# Altium integrated library Atmel Microcontroller AVR UC3.IntLib: 227 symbols (part 9 of 32)
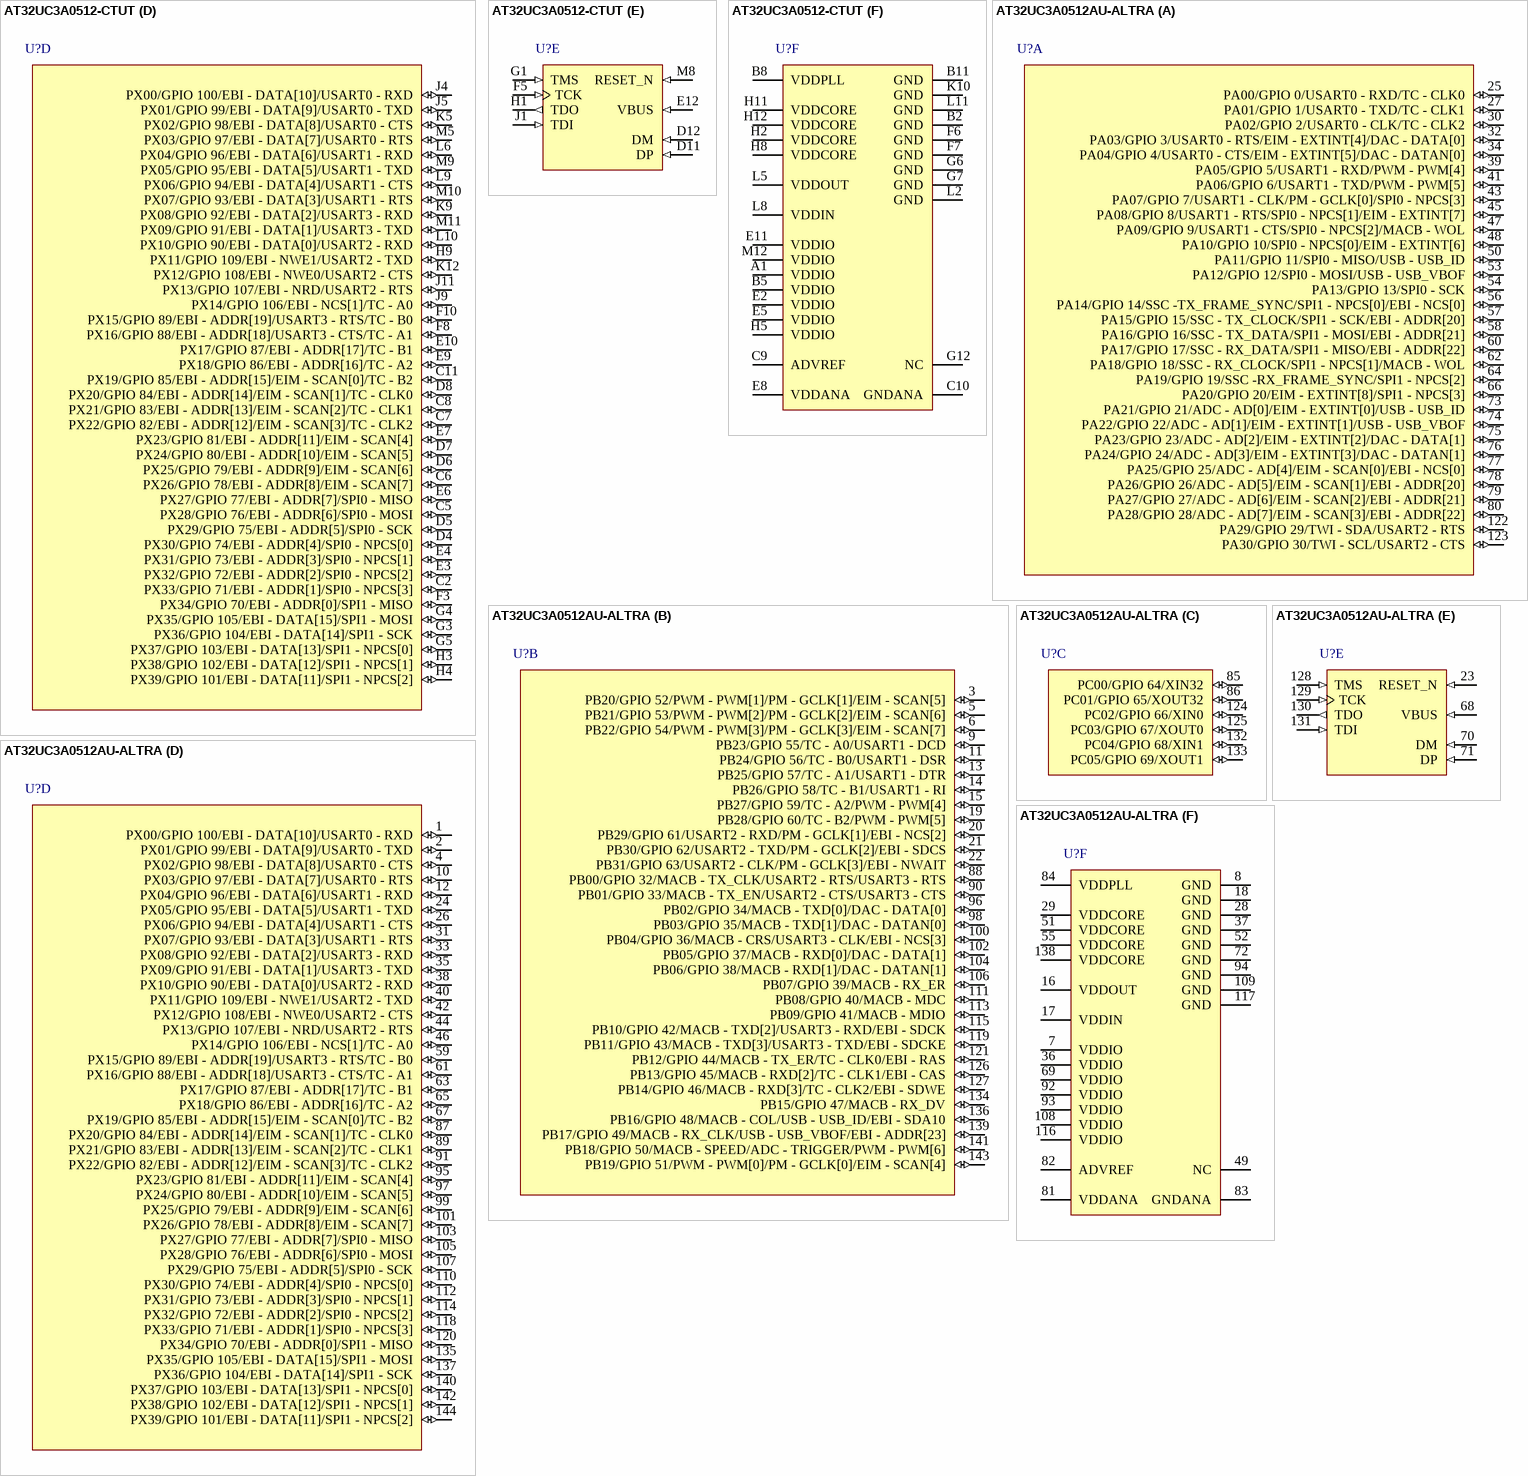
[diagram p146: symbols AT32UC3A0512-CTUT to AT32UC3A0512AU-ALTRA]

## AT32UC3A0512AU-ALTRA
designator U?
32-bit AVR UC3 Microcontroller, 512KB Flash, 64KB SRAM, 109 GPIO pins, Ext. Bus Interface, Audio, 144-Pin LQFP, Automotive Grade, Reel; DatasheetVersion: revK, Jan-2012; PackageVersion: 2011; PackageReference: LQFP144; PackageDescription: 144-Pin Low Profile Plastic Quad Flat Pack, 20 x 20 x 1.4 mm Body, 0.5 mm Pitch; Code_JEDEC: MS-026-BFB; ComponentLink1Description: Manufacturer URL; ComponentLink1URL: http://www.atmel.com/; ComponentLink2Description: AT32UC3A Datasheet; ComponentLink2URL: http://www.atmel.com/dyn/resources/prod_documents/doc32058.pdf; ComponentLink3Description: AT32UC3A Summary; ComponentLink3URL: http://www.atmel.com/dyn/resources/prod_documents/32058S.pdf
footprint LQFP144_N (Thin QFP, 144-Leads, Body 20x20mm, Pitch 0.5mm, IPC Medium Density)
footprint LQFP144_L (Thin QFP, 144-Leads, Body 20x20mm, Pitch 0.5mm, IPC High Density)
footprint LQFP144_M (Thin QFP, 144-Leads, Body 20x20mm, Pitch 0.5mm, IPC Low Density)
part A pins: 25 PA00/GPIO 0/USART0 - RXD/TC - CLK0 (io), 27 PA01/GPIO 1/USART0 - TXD/TC - CLK1 (io), 30 PA02/GPIO 2/USART0 - CLK/TC - CLK2 (io), 32 PA03/GPIO 3/USART0 - RTS/EIM - EXTINT[4]/DAC - DATA[0] (io), 34 PA04/GPIO 4/USART0 - CTS/EIM - EXTINT[5]/DAC - DATAN[0] (io), 39 PA05/GPIO 5/USART1 - RXD/PWM - PWM[4] (io), 41 PA06/GPIO 6/USART1 - TXD/PWM - PWM[5] (io), 43 PA07/GPIO 7/USART1 - CLK/PM - GCLK[0]/SPI0 - NPCS[3] (io), 45 PA08/GPIO 8/USART1 - RTS/SPI0 - NPCS[1]/EIM - EXTINT[7] (io), 47 PA09/GPIO 9/USART1 - CTS/SPI0 - NPCS[2]/MACB - WOL (io), 48 PA10/GPIO 10/SPI0 - NPCS[0]/EIM - EXTINT[6] (io), 50 PA11/GPIO 11/SPI0 - MISO/USB - USB_ID (io), 53 PA12/GPIO 12/SPI0 - MOSI/USB - USB_VBOF (io), 54 PA13/GPIO 13/SPI0 - SCK (io), 56 PA14/GPIO 14/SSC -TX_FRAME_SYNC/SPI1 - NPCS[0]/EBI - NCS[0] (io), 57 PA15/GPIO 15/SSC - TX_CLOCK/SPI1 - SCK/EBI - ADDR[20] (io), 58 PA16/GPIO 16/SSC - TX_DATA/SPI1 - MOSI/EBI - ADDR[21] (io), 60 PA17/GPIO 17/SSC - RX_DATA/SPI1 - MISO/EBI - ADDR[22] (io), 62 PA18/GPIO 18/SSC - RX_CLOCK/SPI1 - NPCS[1]/MACB - WOL (io), 64 PA19/GPIO 19/SSC -RX_FRAME_SYNC/SPI1 - NPCS[2] (io), 66 PA20/GPIO 20/EIM - EXTINT[8]/SPI1 - NPCS[3] (io), 73 PA21/GPIO 21/ADC - AD[0]/EIM - EXTINT[0]/USB - USB_ID (io), 74 PA22/GPIO 22/ADC - AD[1]/EIM - EXTINT[1]/USB - USB_VBOF (io), 75 PA23/GPIO 23/ADC - AD[2]/EIM - EXTINT[2]/DAC - DATA[1] (io), 76 PA24/GPIO 24/ADC - AD[3]/EIM - EXTINT[3]/DAC - DATAN[1] (io), 77 PA25/GPIO 25/ADC - AD[4]/EIM - SCAN[0]/EBI - NCS[0] (io), 78 PA26/GPIO 26/ADC - AD[5]/EIM - SCAN[1]/EBI - ADDR[20] (io), 79 PA27/GPIO 27/ADC - AD[6]/EIM - SCAN[2]/EBI - ADDR[21] (io), 80 PA28/GPIO 28/ADC - AD[7]/EIM - SCAN[3]/EBI - ADDR[22] (io), 122 PA29/GPIO 29/TWI - SDA/USART2 - RTS (io), 123 PA30/GPIO 30/TWI - SCL/USART2 - CTS (io)
part B pins: 3 PB20/GPIO 52/PWM - PWM[1]/PM - GCLK[1]/EIM - SCAN[5] (io), 5 PB21/GPIO 53/PWM - PWM[2]/PM - GCLK[2]/EIM - SCAN[6] (io), 6 PB22/GPIO 54/PWM - PWM[3]/PM - GCLK[3]/EIM - SCAN[7] (io), 9 PB23/GPIO 55/TC - A0/USART1 - DCD (io), 11 PB24/GPIO 56/TC - B0/USART1 - DSR (io), 13 PB25/GPIO 57/TC - A1/USART1 - DTR (io), 14 PB26/GPIO 58/TC - B1/USART1 - RI (io), 15 PB27/GPIO 59/TC - A2/PWM - PWM[4] (io), 19 PB28/GPIO 60/TC - B2/PWM - PWM[5] (io), 20 PB29/GPIO 61/USART2 - RXD/PM - GCLK[1]/EBI - NCS[2] (io), 21 PB30/GPIO 62/USART2 - TXD/PM - GCLK[2]/EBI - SDCS (io), 22 PB31/GPIO 63/USART2 - CLK/PM - GCLK[3]/EBI - NWAIT (io), 88 PB00/GPIO 32/MACB - TX_CLK/USART2 - RTS/USART3 - RTS (io), 90 PB01/GPIO 33/MACB - TX_EN/USART2 - CTS/USART3 - CTS (io), 96 PB02/GPIO 34/MACB - TXD[0]/DAC - DATA[0] (io), 98 PB03/GPIO 35/MACB - TXD[1]/DAC - DATAN[0] (io), 100 PB04/GPIO 36/MACB - CRS/USART3 - CLK/EBI - NCS[3] (io), 102 PB05/GPIO 37/MACB - RXD[0]/DAC - DATA[1] (io), 104 PB06/GPIO 38/MACB - RXD[1]/DAC - DATAN[1] (io), 106 PB07/GPIO 39/MACB - RX_ER (io), 111 PB08/GPIO 40/MACB - MDC (io), 113 PB09/GPIO 41/MACB - MDIO (io), 115 PB10/GPIO 42/MACB - TXD[2]/USART3 - RXD/EBI - SDCK (io), 119 PB11/GPIO 43/MACB - TXD[3]/USART3 - TXD/EBI - SDCKE (io), 121 PB12/GPIO 44/MACB - TX_ER/TC - CLK0/EBI - RAS (io), 126 PB13/GPIO 45/MACB - RXD[2]/TC - CLK1/EBI - CAS (io), 127 PB14/GPIO 46/MACB - RXD[3]/TC - CLK2/EBI - SDWE (io), 134 PB15/GPIO 47/MACB - RX_DV (io), 136 PB16/GPIO 48/MACB - COL/USB - USB_ID/EBI - SDA10 (io), 139 PB17/GPIO 49/MACB - RX_CLK/USB - USB_VBOF/EBI - ADDR[23] (io), 141 PB18/GPIO 50/MACB - SPEED/ADC - TRIGGER/PWM - PWM[6] (io), 143 PB19/GPIO 51/PWM - PWM[0]/PM - GCLK[0]/EIM - SCAN[4] (io)
part C pins: 85 PC00/GPIO 64/XIN32 (io), 86 PC01/GPIO 65/XOUT32 (io), 124 PC02/GPIO 66/XIN0 (io), 125 PC03/GPIO 67/XOUT0 (io), 132 PC04/GPIO 68/XIN1 (io), 133 PC05/GPIO 69/XOUT1 (io)
part D pins: 1 PX00/GPIO 100/EBI - DATA[10]/USART0 - RXD (io), 2 PX01/GPIO 99/EBI - DATA[9]/USART0 - TXD (io), 4 PX02/GPIO 98/EBI - DATA[8]/USART0 - CTS (io), 10 PX03/GPIO 97/EBI - DATA[7]/USART0 - RTS (io), 12 PX04/GPIO 96/EBI - DATA[6]/USART1 - RXD (io), 24 PX05/GPIO 95/EBI - DATA[5]/USART1 - TXD (io), 26 PX06/GPIO 94/EBI - DATA[4]/USART1 - CTS (io), 31 PX07/GPIO 93/EBI - DATA[3]/USART1 - RTS (io), 33 PX08/GPIO 92/EBI - DATA[2]/USART3 - RXD (io), 35 PX09/GPIO 91/EBI - DATA[1]/USART3 - TXD (io), 38 PX10/GPIO 90/EBI - DATA[0]/USART2 - RXD (io), 40 PX11/GPIO 109/EBI - NWE1/USART2 - TXD (io), 42 PX12/GPIO 108/EBI - NWE0/USART2 - CTS (io), 44 PX13/GPIO 107/EBI - NRD/USART2 - RTS (io), 46 PX14/GPIO 106/EBI - NCS[1]/TC - A0 (io), 59 PX15/GPIO 89/EBI - ADDR[19]/USART3 - RTS/TC - B0 (io), 61 PX16/GPIO 88/EBI - ADDR[18]/USART3 - CTS/TC - A1 (io), 63 PX17/GPIO 87/EBI - ADDR[17]/TC - B1 (io), 65 PX18/GPIO 86/EBI - ADDR[16]/TC - A2 (io), 67 PX19/GPIO 85/EBI - ADDR[15]/EIM - SCAN[0]/TC - B2 (io), 87 PX20/GPIO 84/EBI - ADDR[14]/EIM - SCAN[1]/TC - CLK0 (io), 89 PX21/GPIO 83/EBI - ADDR[13]/EIM - SCAN[2]/TC - CLK1 (io), 91 PX22/GPIO 82/EBI - ADDR[12]/EIM - SCAN[3]/TC - CLK2 (io), 95 PX23/GPIO 81/EBI - ADDR[11]/EIM - SCAN[4] (io), 97 PX24/GPIO 80/EBI - ADDR[10]/EIM - SCAN[5] (io), 99 PX25/GPIO 79/EBI - ADDR[9]/EIM - SCAN[6] (io), 101 PX26/GPIO 78/EBI - ADDR[8]/EIM - SCAN[7] (io), 103 PX27/GPIO 77/EBI - ADDR[7]/SPI0 - MISO (io), 105 PX28/GPIO 76/EBI - ADDR[6]/SPI0 - MOSI (io), 107 PX29/GPIO 75/EBI - ADDR[5]/SPI0 - SCK (io), 110 PX30/GPIO 74/EBI - ADDR[4]/SPI0 - NPCS[0] (io), 112 PX31/GPIO 73/EBI - ADDR[3]/SPI0 - NPCS[1] (io), 114 PX32/GPIO 72/EBI - ADDR[2]/SPI0 - NPCS[2] (io), 118 PX33/GPIO 71/EBI - ADDR[1]/SPI0 - NPCS[3] (io), 120 PX34/GPIO 70/EBI - ADDR[0]/SPI1 - MISO (io), 135 PX35/GPIO 105/EBI - DATA[15]/SPI1 - MOSI (io), 137 PX36/GPIO 104/EBI - DATA[14]/SPI1 - SCK (io), 140 PX37/GPIO 103/EBI - DATA[13]/SPI1 - NPCS[0] (io), 142 PX38/GPIO 102/EBI - DATA[12]/SPI1 - NPCS[1] (io), 144 PX39/GPIO 101/EBI - DATA[11]/SPI1 - NPCS[2] (io)
part E pins: 23 RESET_N (in), 68 VBUS (in), 70 DM (in), 71 DP (in), 128 TMS (in), 129 TCK (in), 130 TDO (out), 131 TDI (in)
part F pins: 7 VDDIO (power), 8 GND (power), 16 VDDOUT (power), 17 VDDIN (power), 18 GND (power), 28 GND (power), 29 VDDCORE (power), 36 VDDIO (power), 37 GND (power), 49 NC, 51 VDDCORE (power), 52 GND (power), 55 VDDCORE (power), 69 VDDIO (power), 72 GND (power), 81 VDDANA (power), 82 ADVREF (power), 83 GNDANA (power), 84 VDDPLL (power), 92 VDDIO (power), 93 VDDIO (power), 94 GND (power), 108 VDDIO (power), 109 GND (power), 116 VDDIO (power), 117 GND (power), 138 VDDCORE (power)

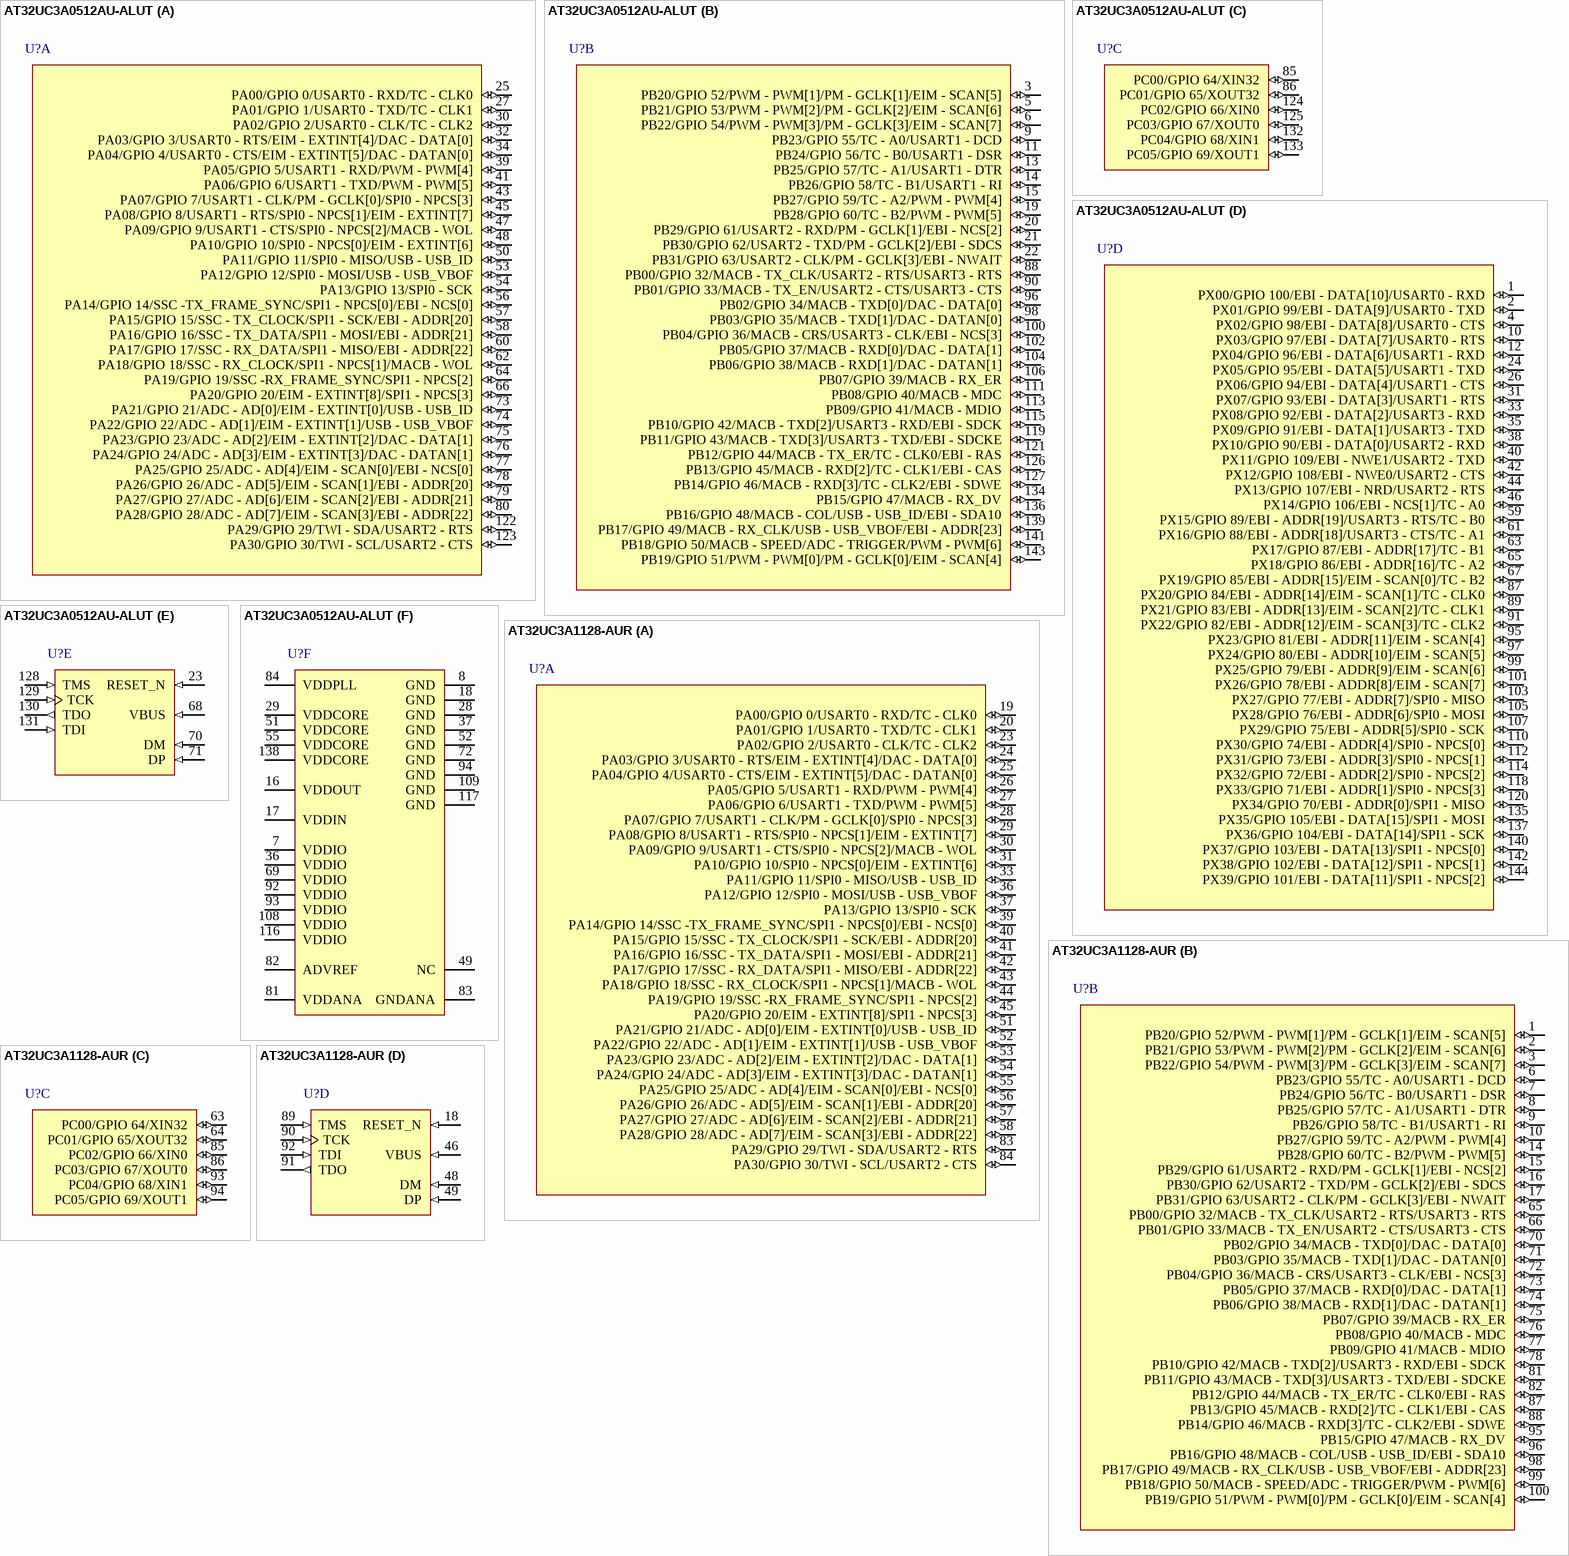
[diagram p27: symbols AT32UC3A0512AU-ALUT to AT32UC3A1128-AUR]

## AT32UC3A0512AU-ALUT
designator U?
32-bit AVR UC3 Microcontroller, 512KB Flash, 64KB SRAM, 109 GPIO pins, Ext. Bus Interface, Audio, 144-Pin LQFP, Industrial Grade, Tray; DatasheetVersion: revK, Jan-2012; PackageVersion: 2011; PackageReference: LQFP144; PackageDescription: 144-Pin Low Profile Plastic Quad Flat Pack, 20 x 20 x 1.4 mm Body, 0.5 mm Pitch; Code_JEDEC: MS-026-BFB; ComponentLink1Description: Manufacturer URL; ComponentLink1URL: http://www.atmel.com/; ComponentLink2Description: AT32UC3A Datasheet; ComponentLink2URL: http://www.atmel.com/dyn/resources/prod_documents/doc32058.pdf; ComponentLink3Description: AT32UC3A Summary; ComponentLink3URL: http://www.atmel.com/dyn/resources/prod_documents/32058S.pdf
footprint LQFP144_N (Thin QFP, 144-Leads, Body 20x20mm, Pitch 0.5mm, IPC Medium Density)
footprint LQFP144_L (Thin QFP, 144-Leads, Body 20x20mm, Pitch 0.5mm, IPC High Density)
footprint LQFP144_M (Thin QFP, 144-Leads, Body 20x20mm, Pitch 0.5mm, IPC Low Density)
part A pins: 25 PA00/GPIO 0/USART0 - RXD/TC - CLK0 (io), 27 PA01/GPIO 1/USART0 - TXD/TC - CLK1 (io), 30 PA02/GPIO 2/USART0 - CLK/TC - CLK2 (io), 32 PA03/GPIO 3/USART0 - RTS/EIM - EXTINT[4]/DAC - DATA[0] (io), 34 PA04/GPIO 4/USART0 - CTS/EIM - EXTINT[5]/DAC - DATAN[0] (io), 39 PA05/GPIO 5/USART1 - RXD/PWM - PWM[4] (io), 41 PA06/GPIO 6/USART1 - TXD/PWM - PWM[5] (io), 43 PA07/GPIO 7/USART1 - CLK/PM - GCLK[0]/SPI0 - NPCS[3] (io), 45 PA08/GPIO 8/USART1 - RTS/SPI0 - NPCS[1]/EIM - EXTINT[7] (io), 47 PA09/GPIO 9/USART1 - CTS/SPI0 - NPCS[2]/MACB - WOL (io), 48 PA10/GPIO 10/SPI0 - NPCS[0]/EIM - EXTINT[6] (io), 50 PA11/GPIO 11/SPI0 - MISO/USB - USB_ID (io), 53 PA12/GPIO 12/SPI0 - MOSI/USB - USB_VBOF (io), 54 PA13/GPIO 13/SPI0 - SCK (io), 56 PA14/GPIO 14/SSC -TX_FRAME_SYNC/SPI1 - NPCS[0]/EBI - NCS[0] (io), 57 PA15/GPIO 15/SSC - TX_CLOCK/SPI1 - SCK/EBI - ADDR[20] (io), 58 PA16/GPIO 16/SSC - TX_DATA/SPI1 - MOSI/EBI - ADDR[21] (io), 60 PA17/GPIO 17/SSC - RX_DATA/SPI1 - MISO/EBI - ADDR[22] (io), 62 PA18/GPIO 18/SSC - RX_CLOCK/SPI1 - NPCS[1]/MACB - WOL (io), 64 PA19/GPIO 19/SSC -RX_FRAME_SYNC/SPI1 - NPCS[2] (io), 66 PA20/GPIO 20/EIM - EXTINT[8]/SPI1 - NPCS[3] (io), 73 PA21/GPIO 21/ADC - AD[0]/EIM - EXTINT[0]/USB - USB_ID (io), 74 PA22/GPIO 22/ADC - AD[1]/EIM - EXTINT[1]/USB - USB_VBOF (io), 75 PA23/GPIO 23/ADC - AD[2]/EIM - EXTINT[2]/DAC - DATA[1] (io), 76 PA24/GPIO 24/ADC - AD[3]/EIM - EXTINT[3]/DAC - DATAN[1] (io), 77 PA25/GPIO 25/ADC - AD[4]/EIM - SCAN[0]/EBI - NCS[0] (io), 78 PA26/GPIO 26/ADC - AD[5]/EIM - SCAN[1]/EBI - ADDR[20] (io), 79 PA27/GPIO 27/ADC - AD[6]/EIM - SCAN[2]/EBI - ADDR[21] (io), 80 PA28/GPIO 28/ADC - AD[7]/EIM - SCAN[3]/EBI - ADDR[22] (io), 122 PA29/GPIO 29/TWI - SDA/USART2 - RTS (io), 123 PA30/GPIO 30/TWI - SCL/USART2 - CTS (io)
part B pins: 3 PB20/GPIO 52/PWM - PWM[1]/PM - GCLK[1]/EIM - SCAN[5] (io), 5 PB21/GPIO 53/PWM - PWM[2]/PM - GCLK[2]/EIM - SCAN[6] (io), 6 PB22/GPIO 54/PWM - PWM[3]/PM - GCLK[3]/EIM - SCAN[7] (io), 9 PB23/GPIO 55/TC - A0/USART1 - DCD (io), 11 PB24/GPIO 56/TC - B0/USART1 - DSR (io), 13 PB25/GPIO 57/TC - A1/USART1 - DTR (io), 14 PB26/GPIO 58/TC - B1/USART1 - RI (io), 15 PB27/GPIO 59/TC - A2/PWM - PWM[4] (io), 19 PB28/GPIO 60/TC - B2/PWM - PWM[5] (io), 20 PB29/GPIO 61/USART2 - RXD/PM - GCLK[1]/EBI - NCS[2] (io), 21 PB30/GPIO 62/USART2 - TXD/PM - GCLK[2]/EBI - SDCS (io), 22 PB31/GPIO 63/USART2 - CLK/PM - GCLK[3]/EBI - NWAIT (io), 88 PB00/GPIO 32/MACB - TX_CLK/USART2 - RTS/USART3 - RTS (io), 90 PB01/GPIO 33/MACB - TX_EN/USART2 - CTS/USART3 - CTS (io), 96 PB02/GPIO 34/MACB - TXD[0]/DAC - DATA[0] (io), 98 PB03/GPIO 35/MACB - TXD[1]/DAC - DATAN[0] (io), 100 PB04/GPIO 36/MACB - CRS/USART3 - CLK/EBI - NCS[3] (io), 102 PB05/GPIO 37/MACB - RXD[0]/DAC - DATA[1] (io), 104 PB06/GPIO 38/MACB - RXD[1]/DAC - DATAN[1] (io), 106 PB07/GPIO 39/MACB - RX_ER (io), 111 PB08/GPIO 40/MACB - MDC (io), 113 PB09/GPIO 41/MACB - MDIO (io), 115 PB10/GPIO 42/MACB - TXD[2]/USART3 - RXD/EBI - SDCK (io), 119 PB11/GPIO 43/MACB - TXD[3]/USART3 - TXD/EBI - SDCKE (io), 121 PB12/GPIO 44/MACB - TX_ER/TC - CLK0/EBI - RAS (io), 126 PB13/GPIO 45/MACB - RXD[2]/TC - CLK1/EBI - CAS (io), 127 PB14/GPIO 46/MACB - RXD[3]/TC - CLK2/EBI - SDWE (io), 134 PB15/GPIO 47/MACB - RX_DV (io), 136 PB16/GPIO 48/MACB - COL/USB - USB_ID/EBI - SDA10 (io), 139 PB17/GPIO 49/MACB - RX_CLK/USB - USB_VBOF/EBI - ADDR[23] (io), 141 PB18/GPIO 50/MACB - SPEED/ADC - TRIGGER/PWM - PWM[6] (io), 143 PB19/GPIO 51/PWM - PWM[0]/PM - GCLK[0]/EIM - SCAN[4] (io)
part C pins: 85 PC00/GPIO 64/XIN32 (io), 86 PC01/GPIO 65/XOUT32 (io), 124 PC02/GPIO 66/XIN0 (io), 125 PC03/GPIO 67/XOUT0 (io), 132 PC04/GPIO 68/XIN1 (io), 133 PC05/GPIO 69/XOUT1 (io)
part D pins: 1 PX00/GPIO 100/EBI - DATA[10]/USART0 - RXD (io), 2 PX01/GPIO 99/EBI - DATA[9]/USART0 - TXD (io), 4 PX02/GPIO 98/EBI - DATA[8]/USART0 - CTS (io), 10 PX03/GPIO 97/EBI - DATA[7]/USART0 - RTS (io), 12 PX04/GPIO 96/EBI - DATA[6]/USART1 - RXD (io), 24 PX05/GPIO 95/EBI - DATA[5]/USART1 - TXD (io), 26 PX06/GPIO 94/EBI - DATA[4]/USART1 - CTS (io), 31 PX07/GPIO 93/EBI - DATA[3]/USART1 - RTS (io), 33 PX08/GPIO 92/EBI - DATA[2]/USART3 - RXD (io), 35 PX09/GPIO 91/EBI - DATA[1]/USART3 - TXD (io), 38 PX10/GPIO 90/EBI - DATA[0]/USART2 - RXD (io), 40 PX11/GPIO 109/EBI - NWE1/USART2 - TXD (io), 42 PX12/GPIO 108/EBI - NWE0/USART2 - CTS (io), 44 PX13/GPIO 107/EBI - NRD/USART2 - RTS (io), 46 PX14/GPIO 106/EBI - NCS[1]/TC - A0 (io), 59 PX15/GPIO 89/EBI - ADDR[19]/USART3 - RTS/TC - B0 (io), 61 PX16/GPIO 88/EBI - ADDR[18]/USART3 - CTS/TC - A1 (io), 63 PX17/GPIO 87/EBI - ADDR[17]/TC - B1 (io), 65 PX18/GPIO 86/EBI - ADDR[16]/TC - A2 (io), 67 PX19/GPIO 85/EBI - ADDR[15]/EIM - SCAN[0]/TC - B2 (io), 87 PX20/GPIO 84/EBI - ADDR[14]/EIM - SCAN[1]/TC - CLK0 (io), 89 PX21/GPIO 83/EBI - ADDR[13]/EIM - SCAN[2]/TC - CLK1 (io), 91 PX22/GPIO 82/EBI - ADDR[12]/EIM - SCAN[3]/TC - CLK2 (io), 95 PX23/GPIO 81/EBI - ADDR[11]/EIM - SCAN[4] (io), 97 PX24/GPIO 80/EBI - ADDR[10]/EIM - SCAN[5] (io), 99 PX25/GPIO 79/EBI - ADDR[9]/EIM - SCAN[6] (io), 101 PX26/GPIO 78/EBI - ADDR[8]/EIM - SCAN[7] (io), 103 PX27/GPIO 77/EBI - ADDR[7]/SPI0 - MISO (io), 105 PX28/GPIO 76/EBI - ADDR[6]/SPI0 - MOSI (io), 107 PX29/GPIO 75/EBI - ADDR[5]/SPI0 - SCK (io), 110 PX30/GPIO 74/EBI - ADDR[4]/SPI0 - NPCS[0] (io), 112 PX31/GPIO 73/EBI - ADDR[3]/SPI0 - NPCS[1] (io), 114 PX32/GPIO 72/EBI - ADDR[2]/SPI0 - NPCS[2] (io), 118 PX33/GPIO 71/EBI - ADDR[1]/SPI0 - NPCS[3] (io), 120 PX34/GPIO 70/EBI - ADDR[0]/SPI1 - MISO (io), 135 PX35/GPIO 105/EBI - DATA[15]/SPI1 - MOSI (io), 137 PX36/GPIO 104/EBI - DATA[14]/SPI1 - SCK (io), 140 PX37/GPIO 103/EBI - DATA[13]/SPI1 - NPCS[0] (io), 142 PX38/GPIO 102/EBI - DATA[12]/SPI1 - NPCS[1] (io), 144 PX39/GPIO 101/EBI - DATA[11]/SPI1 - NPCS[2] (io)
part E pins: 23 RESET_N (in), 68 VBUS (in), 70 DM (in), 71 DP (in), 128 TMS (in), 129 TCK (in), 130 TDO (out), 131 TDI (in)
part F pins: 7 VDDIO (power), 8 GND (power), 16 VDDOUT (power), 17 VDDIN (power), 18 GND (power), 28 GND (power), 29 VDDCORE (power), 36 VDDIO (power), 37 GND (power), 49 NC, 51 VDDCORE (power), 52 GND (power), 55 VDDCORE (power), 69 VDDIO (power), 72 GND (power), 81 VDDANA (power), 82 ADVREF (power), 83 GNDANA (power), 84 VDDPLL (power), 92 VDDIO (power), 93 VDDIO (power), 94 GND (power), 108 VDDIO (power), 109 GND (power), 116 VDDIO (power), 117 GND (power), 138 VDDCORE (power)

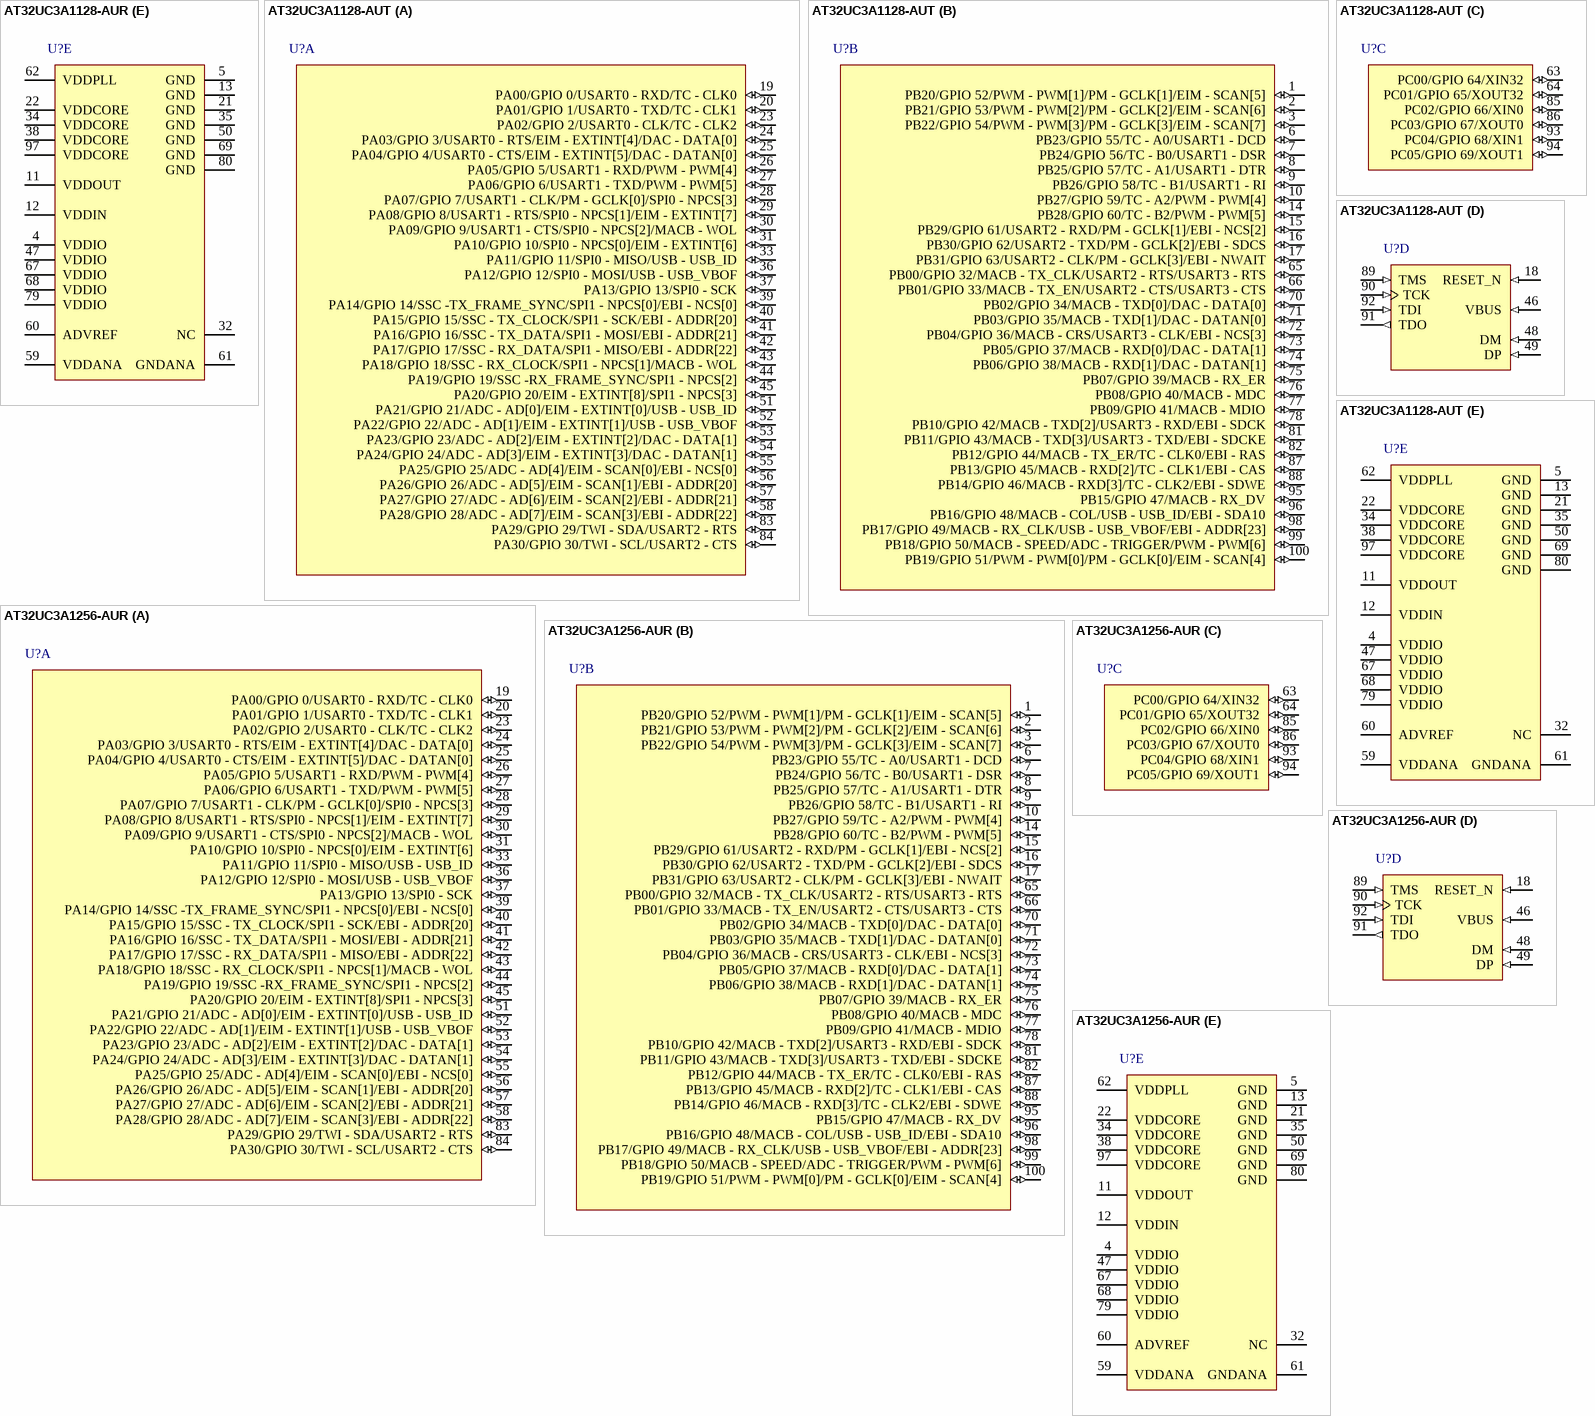
[diagram p28: symbols AT32UC3A1128-AUR to AT32UC3A1256-AUR]

## AT32UC3A1128-AUR
designator U?
32-bit AVR UC3 Microcontroller, 128KB Flash, 32KB SRAM, 69 GPIO pins, 100-Pin TQFP, Industrial Grade, Reel; DatasheetVersion: revK, Jan-2012; PackageVersion: 2011; PackageReference: TQFP100; PackageDescription: 100-Pin Thin Plastic Quad Flat Pack, 14 x 14 x 1 mm Body, 0.5 mm Pitch; Code_JEDEC: MS-026-AED; ComponentLink1Description: Manufacturer URL; ComponentLink1URL: http://www.atmel.com/; ComponentLink2Description: AT32UC3A Datasheet; ComponentLink2URL: http://www.atmel.com/dyn/resources/prod_documents/doc32058.pdf; ComponentLink3Description: AT32UC3A Summary; ComponentLink3URL: http://www.atmel.com/dyn/resources/prod_documents/32058S.pdf
footprint TQFP100_N (Thin QFP, 100-Leads, Body 14x14mm, Pitch 0.5mm, IPC Medium Density)
footprint TQFP100_L (Thin QFP, 100-Leads, Body 14x14mm, Pitch 0.5mm, IPC High Density)
footprint TQFP100_M (Thin QFP, 100-Leads, Body 14x14mm, Pitch 0.5mm, IPC Low Density)
part A pins: 19 PA00/GPIO 0/USART0 - RXD/TC - CLK0 (io), 20 PA01/GPIO 1/USART0 - TXD/TC - CLK1 (io), 23 PA02/GPIO 2/USART0 - CLK/TC - CLK2 (io), 24 PA03/GPIO 3/USART0 - RTS/EIM - EXTINT[4]/DAC - DATA[0] (io), 25 PA04/GPIO 4/USART0 - CTS/EIM - EXTINT[5]/DAC - DATAN[0] (io), 26 PA05/GPIO 5/USART1 - RXD/PWM - PWM[4] (io), 27 PA06/GPIO 6/USART1 - TXD/PWM - PWM[5] (io), 28 PA07/GPIO 7/USART1 - CLK/PM - GCLK[0]/SPI0 - NPCS[3] (io), 29 PA08/GPIO 8/USART1 - RTS/SPI0 - NPCS[1]/EIM - EXTINT[7] (io), 30 PA09/GPIO 9/USART1 - CTS/SPI0 - NPCS[2]/MACB - WOL (io), 31 PA10/GPIO 10/SPI0 - NPCS[0]/EIM - EXTINT[6] (io), 33 PA11/GPIO 11/SPI0 - MISO/USB - USB_ID (io), 36 PA12/GPIO 12/SPI0 - MOSI/USB - USB_VBOF (io), 37 PA13/GPIO 13/SPI0 - SCK (io), 39 PA14/GPIO 14/SSC -TX_FRAME_SYNC/SPI1 - NPCS[0]/EBI - NCS[0] (io), 40 PA15/GPIO 15/SSC - TX_CLOCK/SPI1 - SCK/EBI - ADDR[20] (io), 41 PA16/GPIO 16/SSC - TX_DATA/SPI1 - MOSI/EBI - ADDR[21] (io), 42 PA17/GPIO 17/SSC - RX_DATA/SPI1 - MISO/EBI - ADDR[22] (io), 43 PA18/GPIO 18/SSC - RX_CLOCK/SPI1 - NPCS[1]/MACB - WOL (io), 44 PA19/GPIO 19/SSC -RX_FRAME_SYNC/SPI1 - NPCS[2] (io), 45 PA20/GPIO 20/EIM - EXTINT[8]/SPI1 - NPCS[3] (io), 51 PA21/GPIO 21/ADC - AD[0]/EIM - EXTINT[0]/USB - USB_ID (io), 52 PA22/GPIO 22/ADC - AD[1]/EIM - EXTINT[1]/USB - USB_VBOF (io), 53 PA23/GPIO 23/ADC - AD[2]/EIM - EXTINT[2]/DAC - DATA[1] (io), 54 PA24/GPIO 24/ADC - AD[3]/EIM - EXTINT[3]/DAC - DATAN[1] (io), 55 PA25/GPIO 25/ADC - AD[4]/EIM - SCAN[0]/EBI - NCS[0] (io), 56 PA26/GPIO 26/ADC - AD[5]/EIM - SCAN[1]/EBI - ADDR[20] (io), 57 PA27/GPIO 27/ADC - AD[6]/EIM - SCAN[2]/EBI - ADDR[21] (io), 58 PA28/GPIO 28/ADC - AD[7]/EIM - SCAN[3]/EBI - ADDR[22] (io), 83 PA29/GPIO 29/TWI - SDA/USART2 - RTS (io), 84 PA30/GPIO 30/TWI - SCL/USART2 - CTS (io)
part B pins: 1 PB20/GPIO 52/PWM - PWM[1]/PM - GCLK[1]/EIM - SCAN[5] (io), 2 PB21/GPIO 53/PWM - PWM[2]/PM - GCLK[2]/EIM - SCAN[6] (io), 3 PB22/GPIO 54/PWM - PWM[3]/PM - GCLK[3]/EIM - SCAN[7] (io), 6 PB23/GPIO 55/TC - A0/USART1 - DCD (io), 7 PB24/GPIO 56/TC - B0/USART1 - DSR (io), 8 PB25/GPIO 57/TC - A1/USART1 - DTR (io), 9 PB26/GPIO 58/TC - B1/USART1 - RI (io), 10 PB27/GPIO 59/TC - A2/PWM - PWM[4] (io), 14 PB28/GPIO 60/TC - B2/PWM - PWM[5] (io), 15 PB29/GPIO 61/USART2 - RXD/PM - GCLK[1]/EBI - NCS[2] (io), 16 PB30/GPIO 62/USART2 - TXD/PM - GCLK[2]/EBI - SDCS (io), 17 PB31/GPIO 63/USART2 - CLK/PM - GCLK[3]/EBI - NWAIT (io), 65 PB00/GPIO 32/MACB - TX_CLK/USART2 - RTS/USART3 - RTS (io), 66 PB01/GPIO 33/MACB - TX_EN/USART2 - CTS/USART3 - CTS (io), 70 PB02/GPIO 34/MACB - TXD[0]/DAC - DATA[0] (io), 71 PB03/GPIO 35/MACB - TXD[1]/DAC - DATAN[0] (io), 72 PB04/GPIO 36/MACB - CRS/USART3 - CLK/EBI - NCS[3] (io), 73 PB05/GPIO 37/MACB - RXD[0]/DAC - DATA[1] (io), 74 PB06/GPIO 38/MACB - RXD[1]/DAC - DATAN[1] (io), 75 PB07/GPIO 39/MACB - RX_ER (io), 76 PB08/GPIO 40/MACB - MDC (io), 77 PB09/GPIO 41/MACB - MDIO (io), 78 PB10/GPIO 42/MACB - TXD[2]/USART3 - RXD/EBI - SDCK (io), 81 PB11/GPIO 43/MACB - TXD[3]/USART3 - TXD/EBI - SDCKE (io), 82 PB12/GPIO 44/MACB - TX_ER/TC - CLK0/EBI - RAS (io), 87 PB13/GPIO 45/MACB - RXD[2]/TC - CLK1/EBI - CAS (io), 88 PB14/GPIO 46/MACB - RXD[3]/TC - CLK2/EBI - SDWE (io), 95 PB15/GPIO 47/MACB - RX_DV (io), 96 PB16/GPIO 48/MACB - COL/USB - USB_ID/EBI - SDA10 (io), 98 PB17/GPIO 49/MACB - RX_CLK/USB - USB_VBOF/EBI - ADDR[23] (io), 99 PB18/GPIO 50/MACB - SPEED/ADC - TRIGGER/PWM - PWM[6] (io), 100 PB19/GPIO 51/PWM - PWM[0]/PM - GCLK[0]/EIM - SCAN[4] (io)
part C pins: 63 PC00/GPIO 64/XIN32 (io), 64 PC01/GPIO 65/XOUT32 (io), 85 PC02/GPIO 66/XIN0 (io), 86 PC03/GPIO 67/XOUT0 (io), 93 PC04/GPIO 68/XIN1 (io), 94 PC05/GPIO 69/XOUT1 (io)
part D pins: 18 RESET_N (in), 46 VBUS (in), 48 DM (in), 49 DP (in), 89 TMS (in), 90 TCK (in), 91 TDO (out), 92 TDI (in)
part E pins: 4 VDDIO (power), 5 GND (power), 11 VDDOUT (power), 12 VDDIN (power), 13 GND (power), 21 GND (power), 22 VDDCORE (power), 32 NC, 34 VDDCORE (power), 35 GND (power), 38 VDDCORE (power), 47 VDDIO (power), 50 GND (power), 59 VDDANA (power), 60 ADVREF (power), 61 GNDANA (power), 62 VDDPLL (power), 67 VDDIO (power), 68 VDDIO (power), 69 GND (power), 79 VDDIO (power), 80 GND (power), 97 VDDCORE (power)

## AT32UC3A1128-AUT
designator U?
32-bit AVR UC3 Microcontroller, 128KB Flash, 32KB SRAM, 69 GPIO pins, 100-Pin TQFP, Industrial Grade, Tray; DatasheetVersion: revK, Jan-2012; PackageVersion: 2011; PackageReference: TQFP100; PackageDescription: 100-Pin Thin Plastic Quad Flat Pack, 14 x 14 x 1 mm Body, 0.5 mm Pitch; Code_JEDEC: MS-026-AED; ComponentLink1Description: Manufacturer URL; ComponentLink1URL: http://www.atmel.com/; ComponentLink2Description: AT32UC3A Datasheet; ComponentLink2URL: http://www.atmel.com/dyn/resources/prod_documents/doc32058.pdf; ComponentLink3Description: AT32UC3A Summary; ComponentLink3URL: http://www.atmel.com/dyn/resources/prod_documents/32058S.pdf
footprint TQFP100_N (Thin QFP, 100-Leads, Body 14x14mm, Pitch 0.5mm, IPC Medium Density)
footprint TQFP100_L (Thin QFP, 100-Leads, Body 14x14mm, Pitch 0.5mm, IPC High Density)
footprint TQFP100_M (Thin QFP, 100-Leads, Body 14x14mm, Pitch 0.5mm, IPC Low Density)
part A pins: 19 PA00/GPIO 0/USART0 - RXD/TC - CLK0 (io), 20 PA01/GPIO 1/USART0 - TXD/TC - CLK1 (io), 23 PA02/GPIO 2/USART0 - CLK/TC - CLK2 (io), 24 PA03/GPIO 3/USART0 - RTS/EIM - EXTINT[4]/DAC - DATA[0] (io), 25 PA04/GPIO 4/USART0 - CTS/EIM - EXTINT[5]/DAC - DATAN[0] (io), 26 PA05/GPIO 5/USART1 - RXD/PWM - PWM[4] (io), 27 PA06/GPIO 6/USART1 - TXD/PWM - PWM[5] (io), 28 PA07/GPIO 7/USART1 - CLK/PM - GCLK[0]/SPI0 - NPCS[3] (io), 29 PA08/GPIO 8/USART1 - RTS/SPI0 - NPCS[1]/EIM - EXTINT[7] (io), 30 PA09/GPIO 9/USART1 - CTS/SPI0 - NPCS[2]/MACB - WOL (io), 31 PA10/GPIO 10/SPI0 - NPCS[0]/EIM - EXTINT[6] (io), 33 PA11/GPIO 11/SPI0 - MISO/USB - USB_ID (io), 36 PA12/GPIO 12/SPI0 - MOSI/USB - USB_VBOF (io), 37 PA13/GPIO 13/SPI0 - SCK (io), 39 PA14/GPIO 14/SSC -TX_FRAME_SYNC/SPI1 - NPCS[0]/EBI - NCS[0] (io), 40 PA15/GPIO 15/SSC - TX_CLOCK/SPI1 - SCK/EBI - ADDR[20] (io), 41 PA16/GPIO 16/SSC - TX_DATA/SPI1 - MOSI/EBI - ADDR[21] (io), 42 PA17/GPIO 17/SSC - RX_DATA/SPI1 - MISO/EBI - ADDR[22] (io), 43 PA18/GPIO 18/SSC - RX_CLOCK/SPI1 - NPCS[1]/MACB - WOL (io), 44 PA19/GPIO 19/SSC -RX_FRAME_SYNC/SPI1 - NPCS[2] (io), 45 PA20/GPIO 20/EIM - EXTINT[8]/SPI1 - NPCS[3] (io), 51 PA21/GPIO 21/ADC - AD[0]/EIM - EXTINT[0]/USB - USB_ID (io), 52 PA22/GPIO 22/ADC - AD[1]/EIM - EXTINT[1]/USB - USB_VBOF (io), 53 PA23/GPIO 23/ADC - AD[2]/EIM - EXTINT[2]/DAC - DATA[1] (io), 54 PA24/GPIO 24/ADC - AD[3]/EIM - EXTINT[3]/DAC - DATAN[1] (io), 55 PA25/GPIO 25/ADC - AD[4]/EIM - SCAN[0]/EBI - NCS[0] (io), 56 PA26/GPIO 26/ADC - AD[5]/EIM - SCAN[1]/EBI - ADDR[20] (io), 57 PA27/GPIO 27/ADC - AD[6]/EIM - SCAN[2]/EBI - ADDR[21] (io), 58 PA28/GPIO 28/ADC - AD[7]/EIM - SCAN[3]/EBI - ADDR[22] (io), 83 PA29/GPIO 29/TWI - SDA/USART2 - RTS (io), 84 PA30/GPIO 30/TWI - SCL/USART2 - CTS (io)
part B pins: 1 PB20/GPIO 52/PWM - PWM[1]/PM - GCLK[1]/EIM - SCAN[5] (io), 2 PB21/GPIO 53/PWM - PWM[2]/PM - GCLK[2]/EIM - SCAN[6] (io), 3 PB22/GPIO 54/PWM - PWM[3]/PM - GCLK[3]/EIM - SCAN[7] (io), 6 PB23/GPIO 55/TC - A0/USART1 - DCD (io), 7 PB24/GPIO 56/TC - B0/USART1 - DSR (io), 8 PB25/GPIO 57/TC - A1/USART1 - DTR (io), 9 PB26/GPIO 58/TC - B1/USART1 - RI (io), 10 PB27/GPIO 59/TC - A2/PWM - PWM[4] (io), 14 PB28/GPIO 60/TC - B2/PWM - PWM[5] (io), 15 PB29/GPIO 61/USART2 - RXD/PM - GCLK[1]/EBI - NCS[2] (io), 16 PB30/GPIO 62/USART2 - TXD/PM - GCLK[2]/EBI - SDCS (io), 17 PB31/GPIO 63/USART2 - CLK/PM - GCLK[3]/EBI - NWAIT (io), 65 PB00/GPIO 32/MACB - TX_CLK/USART2 - RTS/USART3 - RTS (io), 66 PB01/GPIO 33/MACB - TX_EN/USART2 - CTS/USART3 - CTS (io), 70 PB02/GPIO 34/MACB - TXD[0]/DAC - DATA[0] (io), 71 PB03/GPIO 35/MACB - TXD[1]/DAC - DATAN[0] (io), 72 PB04/GPIO 36/MACB - CRS/USART3 - CLK/EBI - NCS[3] (io), 73 PB05/GPIO 37/MACB - RXD[0]/DAC - DATA[1] (io), 74 PB06/GPIO 38/MACB - RXD[1]/DAC - DATAN[1] (io), 75 PB07/GPIO 39/MACB - RX_ER (io), 76 PB08/GPIO 40/MACB - MDC (io), 77 PB09/GPIO 41/MACB - MDIO (io), 78 PB10/GPIO 42/MACB - TXD[2]/USART3 - RXD/EBI - SDCK (io), 81 PB11/GPIO 43/MACB - TXD[3]/USART3 - TXD/EBI - SDCKE (io), 82 PB12/GPIO 44/MACB - TX_ER/TC - CLK0/EBI - RAS (io), 87 PB13/GPIO 45/MACB - RXD[2]/TC - CLK1/EBI - CAS (io), 88 PB14/GPIO 46/MACB - RXD[3]/TC - CLK2/EBI - SDWE (io), 95 PB15/GPIO 47/MACB - RX_DV (io), 96 PB16/GPIO 48/MACB - COL/USB - USB_ID/EBI - SDA10 (io), 98 PB17/GPIO 49/MACB - RX_CLK/USB - USB_VBOF/EBI - ADDR[23] (io), 99 PB18/GPIO 50/MACB - SPEED/ADC - TRIGGER/PWM - PWM[6] (io), 100 PB19/GPIO 51/PWM - PWM[0]/PM - GCLK[0]/EIM - SCAN[4] (io)
part C pins: 63 PC00/GPIO 64/XIN32 (io), 64 PC01/GPIO 65/XOUT32 (io), 85 PC02/GPIO 66/XIN0 (io), 86 PC03/GPIO 67/XOUT0 (io), 93 PC04/GPIO 68/XIN1 (io), 94 PC05/GPIO 69/XOUT1 (io)
part D pins: 18 RESET_N (in), 46 VBUS (in), 48 DM (in), 49 DP (in), 89 TMS (in), 90 TCK (in), 91 TDO (out), 92 TDI (in)
part E pins: 4 VDDIO (power), 5 GND (power), 11 VDDOUT (power), 12 VDDIN (power), 13 GND (power), 21 GND (power), 22 VDDCORE (power), 32 NC, 34 VDDCORE (power), 35 GND (power), 38 VDDCORE (power), 47 VDDIO (power), 50 GND (power), 59 VDDANA (power), 60 ADVREF (power), 61 GNDANA (power), 62 VDDPLL (power), 67 VDDIO (power), 68 VDDIO (power), 69 GND (power), 79 VDDIO (power), 80 GND (power), 97 VDDCORE (power)

## AT32UC3A1256-AUR
designator U?
32-bit AVR UC3 Microcontroller, 256KB Flash, 64KB SRAM, 69 GPIO pins, 100-Pin TQFP, Industrial Grade, Reel; DatasheetVersion: revK, Jan-2012; PackageVersion: 2011; PackageReference: TQFP100; PackageDescription: 100-Pin Thin Plastic Quad Flat Pack, 14 x 14 x 1 mm Body, 0.5 mm Pitch; Code_JEDEC: MS-026-AED; ComponentLink1Description: Manufacturer URL; ComponentLink1URL: http://www.atmel.com/; ComponentLink2Description: AT32UC3A Datasheet; ComponentLink2URL: http://www.atmel.com/dyn/resources/prod_documents/doc32058.pdf; ComponentLink3Description: AT32UC3A Summary; ComponentLink3URL: http://www.atmel.com/dyn/resources/prod_documents/32058S.pdf
footprint TQFP100_N (Thin QFP, 100-Leads, Body 14x14mm, Pitch 0.5mm, IPC Medium Density)
footprint TQFP100_L (Thin QFP, 100-Leads, Body 14x14mm, Pitch 0.5mm, IPC High Density)
footprint TQFP100_M (Thin QFP, 100-Leads, Body 14x14mm, Pitch 0.5mm, IPC Low Density)
part A pins: 19 PA00/GPIO 0/USART0 - RXD/TC - CLK0 (io), 20 PA01/GPIO 1/USART0 - TXD/TC - CLK1 (io), 23 PA02/GPIO 2/USART0 - CLK/TC - CLK2 (io), 24 PA03/GPIO 3/USART0 - RTS/EIM - EXTINT[4]/DAC - DATA[0] (io), 25 PA04/GPIO 4/USART0 - CTS/EIM - EXTINT[5]/DAC - DATAN[0] (io), 26 PA05/GPIO 5/USART1 - RXD/PWM - PWM[4] (io), 27 PA06/GPIO 6/USART1 - TXD/PWM - PWM[5] (io), 28 PA07/GPIO 7/USART1 - CLK/PM - GCLK[0]/SPI0 - NPCS[3] (io), 29 PA08/GPIO 8/USART1 - RTS/SPI0 - NPCS[1]/EIM - EXTINT[7] (io), 30 PA09/GPIO 9/USART1 - CTS/SPI0 - NPCS[2]/MACB - WOL (io), 31 PA10/GPIO 10/SPI0 - NPCS[0]/EIM - EXTINT[6] (io), 33 PA11/GPIO 11/SPI0 - MISO/USB - USB_ID (io), 36 PA12/GPIO 12/SPI0 - MOSI/USB - USB_VBOF (io), 37 PA13/GPIO 13/SPI0 - SCK (io), 39 PA14/GPIO 14/SSC -TX_FRAME_SYNC/SPI1 - NPCS[0]/EBI - NCS[0] (io), 40 PA15/GPIO 15/SSC - TX_CLOCK/SPI1 - SCK/EBI - ADDR[20] (io), 41 PA16/GPIO 16/SSC - TX_DATA/SPI1 - MOSI/EBI - ADDR[21] (io), 42 PA17/GPIO 17/SSC - RX_DATA/SPI1 - MISO/EBI - ADDR[22] (io), 43 PA18/GPIO 18/SSC - RX_CLOCK/SPI1 - NPCS[1]/MACB - WOL (io), 44 PA19/GPIO 19/SSC -RX_FRAME_SYNC/SPI1 - NPCS[2] (io), 45 PA20/GPIO 20/EIM - EXTINT[8]/SPI1 - NPCS[3] (io), 51 PA21/GPIO 21/ADC - AD[0]/EIM - EXTINT[0]/USB - USB_ID (io), 52 PA22/GPIO 22/ADC - AD[1]/EIM - EXTINT[1]/USB - USB_VBOF (io), 53 PA23/GPIO 23/ADC - AD[2]/EIM - EXTINT[2]/DAC - DATA[1] (io), 54 PA24/GPIO 24/ADC - AD[3]/EIM - EXTINT[3]/DAC - DATAN[1] (io), 55 PA25/GPIO 25/ADC - AD[4]/EIM - SCAN[0]/EBI - NCS[0] (io), 56 PA26/GPIO 26/ADC - AD[5]/EIM - SCAN[1]/EBI - ADDR[20] (io), 57 PA27/GPIO 27/ADC - AD[6]/EIM - SCAN[2]/EBI - ADDR[21] (io), 58 PA28/GPIO 28/ADC - AD[7]/EIM - SCAN[3]/EBI - ADDR[22] (io), 83 PA29/GPIO 29/TWI - SDA/USART2 - RTS (io), 84 PA30/GPIO 30/TWI - SCL/USART2 - CTS (io)
part B pins: 1 PB20/GPIO 52/PWM - PWM[1]/PM - GCLK[1]/EIM - SCAN[5] (io), 2 PB21/GPIO 53/PWM - PWM[2]/PM - GCLK[2]/EIM - SCAN[6] (io), 3 PB22/GPIO 54/PWM - PWM[3]/PM - GCLK[3]/EIM - SCAN[7] (io), 6 PB23/GPIO 55/TC - A0/USART1 - DCD (io), 7 PB24/GPIO 56/TC - B0/USART1 - DSR (io), 8 PB25/GPIO 57/TC - A1/USART1 - DTR (io), 9 PB26/GPIO 58/TC - B1/USART1 - RI (io), 10 PB27/GPIO 59/TC - A2/PWM - PWM[4] (io), 14 PB28/GPIO 60/TC - B2/PWM - PWM[5] (io), 15 PB29/GPIO 61/USART2 - RXD/PM - GCLK[1]/EBI - NCS[2] (io), 16 PB30/GPIO 62/USART2 - TXD/PM - GCLK[2]/EBI - SDCS (io), 17 PB31/GPIO 63/USART2 - CLK/PM - GCLK[3]/EBI - NWAIT (io), 65 PB00/GPIO 32/MACB - TX_CLK/USART2 - RTS/USART3 - RTS (io), 66 PB01/GPIO 33/MACB - TX_EN/USART2 - CTS/USART3 - CTS (io), 70 PB02/GPIO 34/MACB - TXD[0]/DAC - DATA[0] (io), 71 PB03/GPIO 35/MACB - TXD[1]/DAC - DATAN[0] (io), 72 PB04/GPIO 36/MACB - CRS/USART3 - CLK/EBI - NCS[3] (io), 73 PB05/GPIO 37/MACB - RXD[0]/DAC - DATA[1] (io), 74 PB06/GPIO 38/MACB - RXD[1]/DAC - DATAN[1] (io), 75 PB07/GPIO 39/MACB - RX_ER (io), 76 PB08/GPIO 40/MACB - MDC (io), 77 PB09/GPIO 41/MACB - MDIO (io), 78 PB10/GPIO 42/MACB - TXD[2]/USART3 - RXD/EBI - SDCK (io), 81 PB11/GPIO 43/MACB - TXD[3]/USART3 - TXD/EBI - SDCKE (io), 82 PB12/GPIO 44/MACB - TX_ER/TC - CLK0/EBI - RAS (io), 87 PB13/GPIO 45/MACB - RXD[2]/TC - CLK1/EBI - CAS (io), 88 PB14/GPIO 46/MACB - RXD[3]/TC - CLK2/EBI - SDWE (io), 95 PB15/GPIO 47/MACB - RX_DV (io), 96 PB16/GPIO 48/MACB - COL/USB - USB_ID/EBI - SDA10 (io), 98 PB17/GPIO 49/MACB - RX_CLK/USB - USB_VBOF/EBI - ADDR[23] (io), 99 PB18/GPIO 50/MACB - SPEED/ADC - TRIGGER/PWM - PWM[6] (io), 100 PB19/GPIO 51/PWM - PWM[0]/PM - GCLK[0]/EIM - SCAN[4] (io)
part C pins: 63 PC00/GPIO 64/XIN32 (io), 64 PC01/GPIO 65/XOUT32 (io), 85 PC02/GPIO 66/XIN0 (io), 86 PC03/GPIO 67/XOUT0 (io), 93 PC04/GPIO 68/XIN1 (io), 94 PC05/GPIO 69/XOUT1 (io)
part D pins: 18 RESET_N (in), 46 VBUS (in), 48 DM (in), 49 DP (in), 89 TMS (in), 90 TCK (in), 91 TDO (out), 92 TDI (in)
part E pins: 4 VDDIO (power), 5 GND (power), 11 VDDOUT (power), 12 VDDIN (power), 13 GND (power), 21 GND (power), 22 VDDCORE (power), 32 NC, 34 VDDCORE (power), 35 GND (power), 38 VDDCORE (power), 47 VDDIO (power), 50 GND (power), 59 VDDANA (power), 60 ADVREF (power), 61 GNDANA (power), 62 VDDPLL (power), 67 VDDIO (power), 68 VDDIO (power), 69 GND (power), 79 VDDIO (power), 80 GND (power), 97 VDDCORE (power)

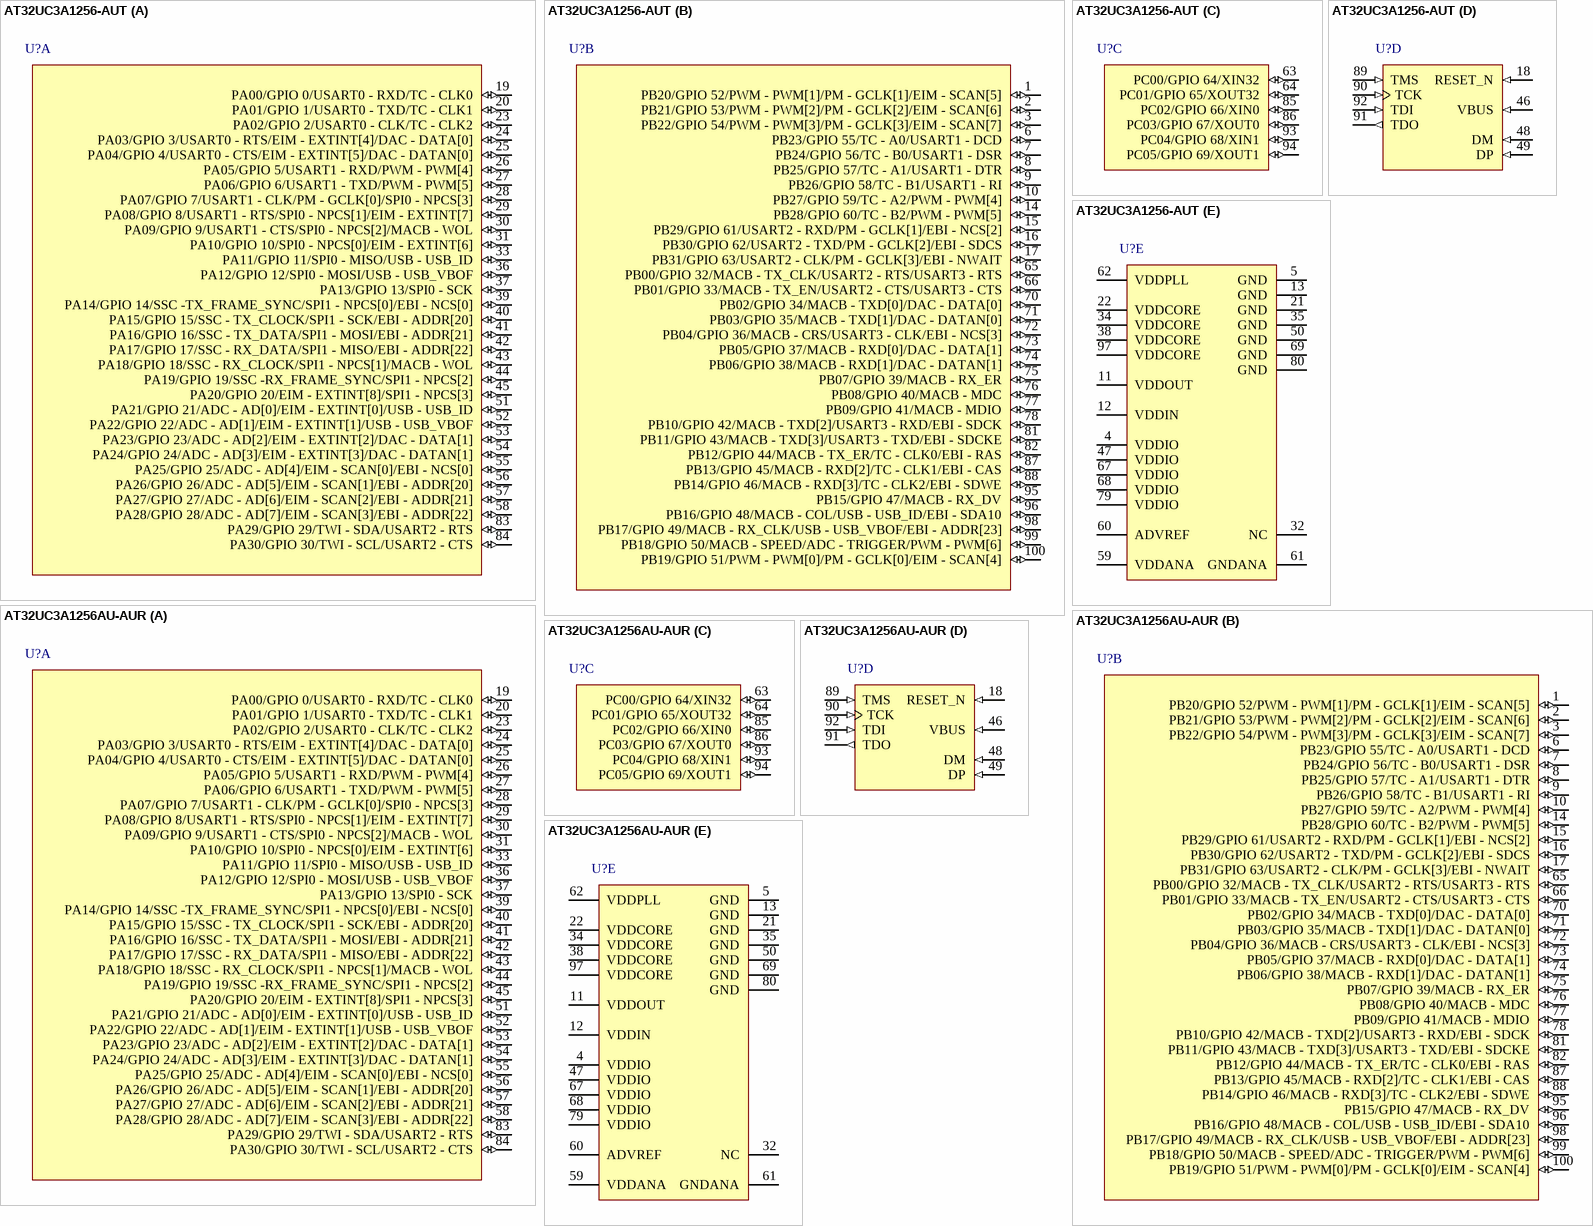
[diagram p29: symbols AT32UC3A1256-AUT to AT32UC3A1256AU-AUR]

## AT32UC3A1256-AUT
designator U?
32-bit AVR UC3 Microcontroller, 256KB Flash, 64KB SRAM, 69 GPIO pins, 100-Pin TQFP, Industrial Grade, Tray; DatasheetVersion: revK, Jan-2012; PackageVersion: 2011; PackageReference: TQFP100; PackageDescription: 100-Pin Thin Plastic Quad Flat Pack, 14 x 14 x 1 mm Body, 0.5 mm Pitch; Code_JEDEC: MS-026-AED; ComponentLink1Description: Manufacturer URL; ComponentLink1URL: http://www.atmel.com/; ComponentLink2Description: AT32UC3A Datasheet; ComponentLink2URL: http://www.atmel.com/dyn/resources/prod_documents/doc32058.pdf; ComponentLink3Description: AT32UC3A Summary; ComponentLink3URL: http://www.atmel.com/dyn/resources/prod_documents/32058S.pdf
footprint TQFP100_N (Thin QFP, 100-Leads, Body 14x14mm, Pitch 0.5mm, IPC Medium Density)
footprint TQFP100_L (Thin QFP, 100-Leads, Body 14x14mm, Pitch 0.5mm, IPC High Density)
footprint TQFP100_M (Thin QFP, 100-Leads, Body 14x14mm, Pitch 0.5mm, IPC Low Density)
part A pins: 19 PA00/GPIO 0/USART0 - RXD/TC - CLK0 (io), 20 PA01/GPIO 1/USART0 - TXD/TC - CLK1 (io), 23 PA02/GPIO 2/USART0 - CLK/TC - CLK2 (io), 24 PA03/GPIO 3/USART0 - RTS/EIM - EXTINT[4]/DAC - DATA[0] (io), 25 PA04/GPIO 4/USART0 - CTS/EIM - EXTINT[5]/DAC - DATAN[0] (io), 26 PA05/GPIO 5/USART1 - RXD/PWM - PWM[4] (io), 27 PA06/GPIO 6/USART1 - TXD/PWM - PWM[5] (io), 28 PA07/GPIO 7/USART1 - CLK/PM - GCLK[0]/SPI0 - NPCS[3] (io), 29 PA08/GPIO 8/USART1 - RTS/SPI0 - NPCS[1]/EIM - EXTINT[7] (io), 30 PA09/GPIO 9/USART1 - CTS/SPI0 - NPCS[2]/MACB - WOL (io), 31 PA10/GPIO 10/SPI0 - NPCS[0]/EIM - EXTINT[6] (io), 33 PA11/GPIO 11/SPI0 - MISO/USB - USB_ID (io), 36 PA12/GPIO 12/SPI0 - MOSI/USB - USB_VBOF (io), 37 PA13/GPIO 13/SPI0 - SCK (io), 39 PA14/GPIO 14/SSC -TX_FRAME_SYNC/SPI1 - NPCS[0]/EBI - NCS[0] (io), 40 PA15/GPIO 15/SSC - TX_CLOCK/SPI1 - SCK/EBI - ADDR[20] (io), 41 PA16/GPIO 16/SSC - TX_DATA/SPI1 - MOSI/EBI - ADDR[21] (io), 42 PA17/GPIO 17/SSC - RX_DATA/SPI1 - MISO/EBI - ADDR[22] (io), 43 PA18/GPIO 18/SSC - RX_CLOCK/SPI1 - NPCS[1]/MACB - WOL (io), 44 PA19/GPIO 19/SSC -RX_FRAME_SYNC/SPI1 - NPCS[2] (io), 45 PA20/GPIO 20/EIM - EXTINT[8]/SPI1 - NPCS[3] (io), 51 PA21/GPIO 21/ADC - AD[0]/EIM - EXTINT[0]/USB - USB_ID (io), 52 PA22/GPIO 22/ADC - AD[1]/EIM - EXTINT[1]/USB - USB_VBOF (io), 53 PA23/GPIO 23/ADC - AD[2]/EIM - EXTINT[2]/DAC - DATA[1] (io), 54 PA24/GPIO 24/ADC - AD[3]/EIM - EXTINT[3]/DAC - DATAN[1] (io), 55 PA25/GPIO 25/ADC - AD[4]/EIM - SCAN[0]/EBI - NCS[0] (io), 56 PA26/GPIO 26/ADC - AD[5]/EIM - SCAN[1]/EBI - ADDR[20] (io), 57 PA27/GPIO 27/ADC - AD[6]/EIM - SCAN[2]/EBI - ADDR[21] (io), 58 PA28/GPIO 28/ADC - AD[7]/EIM - SCAN[3]/EBI - ADDR[22] (io), 83 PA29/GPIO 29/TWI - SDA/USART2 - RTS (io), 84 PA30/GPIO 30/TWI - SCL/USART2 - CTS (io)
part B pins: 1 PB20/GPIO 52/PWM - PWM[1]/PM - GCLK[1]/EIM - SCAN[5] (io), 2 PB21/GPIO 53/PWM - PWM[2]/PM - GCLK[2]/EIM - SCAN[6] (io), 3 PB22/GPIO 54/PWM - PWM[3]/PM - GCLK[3]/EIM - SCAN[7] (io), 6 PB23/GPIO 55/TC - A0/USART1 - DCD (io), 7 PB24/GPIO 56/TC - B0/USART1 - DSR (io), 8 PB25/GPIO 57/TC - A1/USART1 - DTR (io), 9 PB26/GPIO 58/TC - B1/USART1 - RI (io), 10 PB27/GPIO 59/TC - A2/PWM - PWM[4] (io), 14 PB28/GPIO 60/TC - B2/PWM - PWM[5] (io), 15 PB29/GPIO 61/USART2 - RXD/PM - GCLK[1]/EBI - NCS[2] (io), 16 PB30/GPIO 62/USART2 - TXD/PM - GCLK[2]/EBI - SDCS (io), 17 PB31/GPIO 63/USART2 - CLK/PM - GCLK[3]/EBI - NWAIT (io), 65 PB00/GPIO 32/MACB - TX_CLK/USART2 - RTS/USART3 - RTS (io), 66 PB01/GPIO 33/MACB - TX_EN/USART2 - CTS/USART3 - CTS (io), 70 PB02/GPIO 34/MACB - TXD[0]/DAC - DATA[0] (io), 71 PB03/GPIO 35/MACB - TXD[1]/DAC - DATAN[0] (io), 72 PB04/GPIO 36/MACB - CRS/USART3 - CLK/EBI - NCS[3] (io), 73 PB05/GPIO 37/MACB - RXD[0]/DAC - DATA[1] (io), 74 PB06/GPIO 38/MACB - RXD[1]/DAC - DATAN[1] (io), 75 PB07/GPIO 39/MACB - RX_ER (io), 76 PB08/GPIO 40/MACB - MDC (io), 77 PB09/GPIO 41/MACB - MDIO (io), 78 PB10/GPIO 42/MACB - TXD[2]/USART3 - RXD/EBI - SDCK (io), 81 PB11/GPIO 43/MACB - TXD[3]/USART3 - TXD/EBI - SDCKE (io), 82 PB12/GPIO 44/MACB - TX_ER/TC - CLK0/EBI - RAS (io), 87 PB13/GPIO 45/MACB - RXD[2]/TC - CLK1/EBI - CAS (io), 88 PB14/GPIO 46/MACB - RXD[3]/TC - CLK2/EBI - SDWE (io), 95 PB15/GPIO 47/MACB - RX_DV (io), 96 PB16/GPIO 48/MACB - COL/USB - USB_ID/EBI - SDA10 (io), 98 PB17/GPIO 49/MACB - RX_CLK/USB - USB_VBOF/EBI - ADDR[23] (io), 99 PB18/GPIO 50/MACB - SPEED/ADC - TRIGGER/PWM - PWM[6] (io), 100 PB19/GPIO 51/PWM - PWM[0]/PM - GCLK[0]/EIM - SCAN[4] (io)
part C pins: 63 PC00/GPIO 64/XIN32 (io), 64 PC01/GPIO 65/XOUT32 (io), 85 PC02/GPIO 66/XIN0 (io), 86 PC03/GPIO 67/XOUT0 (io), 93 PC04/GPIO 68/XIN1 (io), 94 PC05/GPIO 69/XOUT1 (io)
part D pins: 18 RESET_N (in), 46 VBUS (in), 48 DM (in), 49 DP (in), 89 TMS (in), 90 TCK (in), 91 TDO (out), 92 TDI (in)
part E pins: 4 VDDIO (power), 5 GND (power), 11 VDDOUT (power), 12 VDDIN (power), 13 GND (power), 21 GND (power), 22 VDDCORE (power), 32 NC, 34 VDDCORE (power), 35 GND (power), 38 VDDCORE (power), 47 VDDIO (power), 50 GND (power), 59 VDDANA (power), 60 ADVREF (power), 61 GNDANA (power), 62 VDDPLL (power), 67 VDDIO (power), 68 VDDIO (power), 69 GND (power), 79 VDDIO (power), 80 GND (power), 97 VDDCORE (power)

## AT32UC3A1256AU-AUR
designator U?
32-bit AVR UC3 Microcontroller, 256KB Flash, 64KB SRAM, 69 GPIO pins, Audio, 100-Pin TQFP, Industrial Grade, Reel; DatasheetVersion: revK, Jan-2012; PackageVersion: 2011; PackageReference: TQFP100; PackageDescription: 100-Pin Thin Plastic Quad Flat Pack, 14 x 14 x 1 mm Body, 0.5 mm Pitch; Code_JEDEC: MS-026-AED; ComponentLink1Description: Manufacturer URL; ComponentLink1URL: http://www.atmel.com/; ComponentLink2Description: AT32UC3A Datasheet; ComponentLink2URL: http://www.atmel.com/dyn/resources/prod_documents/doc32058.pdf; ComponentLink3Description: AT32UC3A Summary; ComponentLink3URL: http://www.atmel.com/dyn/resources/prod_documents/32058S.pdf
footprint TQFP100_N (Thin QFP, 100-Leads, Body 14x14mm, Pitch 0.5mm, IPC Medium Density)
footprint TQFP100_L (Thin QFP, 100-Leads, Body 14x14mm, Pitch 0.5mm, IPC High Density)
footprint TQFP100_M (Thin QFP, 100-Leads, Body 14x14mm, Pitch 0.5mm, IPC Low Density)
part A pins: 19 PA00/GPIO 0/USART0 - RXD/TC - CLK0 (io), 20 PA01/GPIO 1/USART0 - TXD/TC - CLK1 (io), 23 PA02/GPIO 2/USART0 - CLK/TC - CLK2 (io), 24 PA03/GPIO 3/USART0 - RTS/EIM - EXTINT[4]/DAC - DATA[0] (io), 25 PA04/GPIO 4/USART0 - CTS/EIM - EXTINT[5]/DAC - DATAN[0] (io), 26 PA05/GPIO 5/USART1 - RXD/PWM - PWM[4] (io), 27 PA06/GPIO 6/USART1 - TXD/PWM - PWM[5] (io), 28 PA07/GPIO 7/USART1 - CLK/PM - GCLK[0]/SPI0 - NPCS[3] (io), 29 PA08/GPIO 8/USART1 - RTS/SPI0 - NPCS[1]/EIM - EXTINT[7] (io), 30 PA09/GPIO 9/USART1 - CTS/SPI0 - NPCS[2]/MACB - WOL (io), 31 PA10/GPIO 10/SPI0 - NPCS[0]/EIM - EXTINT[6] (io), 33 PA11/GPIO 11/SPI0 - MISO/USB - USB_ID (io), 36 PA12/GPIO 12/SPI0 - MOSI/USB - USB_VBOF (io), 37 PA13/GPIO 13/SPI0 - SCK (io), 39 PA14/GPIO 14/SSC -TX_FRAME_SYNC/SPI1 - NPCS[0]/EBI - NCS[0] (io), 40 PA15/GPIO 15/SSC - TX_CLOCK/SPI1 - SCK/EBI - ADDR[20] (io), 41 PA16/GPIO 16/SSC - TX_DATA/SPI1 - MOSI/EBI - ADDR[21] (io), 42 PA17/GPIO 17/SSC - RX_DATA/SPI1 - MISO/EBI - ADDR[22] (io), 43 PA18/GPIO 18/SSC - RX_CLOCK/SPI1 - NPCS[1]/MACB - WOL (io), 44 PA19/GPIO 19/SSC -RX_FRAME_SYNC/SPI1 - NPCS[2] (io), 45 PA20/GPIO 20/EIM - EXTINT[8]/SPI1 - NPCS[3] (io), 51 PA21/GPIO 21/ADC - AD[0]/EIM - EXTINT[0]/USB - USB_ID (io), 52 PA22/GPIO 22/ADC - AD[1]/EIM - EXTINT[1]/USB - USB_VBOF (io), 53 PA23/GPIO 23/ADC - AD[2]/EIM - EXTINT[2]/DAC - DATA[1] (io), 54 PA24/GPIO 24/ADC - AD[3]/EIM - EXTINT[3]/DAC - DATAN[1] (io), 55 PA25/GPIO 25/ADC - AD[4]/EIM - SCAN[0]/EBI - NCS[0] (io), 56 PA26/GPIO 26/ADC - AD[5]/EIM - SCAN[1]/EBI - ADDR[20] (io), 57 PA27/GPIO 27/ADC - AD[6]/EIM - SCAN[2]/EBI - ADDR[21] (io), 58 PA28/GPIO 28/ADC - AD[7]/EIM - SCAN[3]/EBI - ADDR[22] (io), 83 PA29/GPIO 29/TWI - SDA/USART2 - RTS (io), 84 PA30/GPIO 30/TWI - SCL/USART2 - CTS (io)
part B pins: 1 PB20/GPIO 52/PWM - PWM[1]/PM - GCLK[1]/EIM - SCAN[5] (io), 2 PB21/GPIO 53/PWM - PWM[2]/PM - GCLK[2]/EIM - SCAN[6] (io), 3 PB22/GPIO 54/PWM - PWM[3]/PM - GCLK[3]/EIM - SCAN[7] (io), 6 PB23/GPIO 55/TC - A0/USART1 - DCD (io), 7 PB24/GPIO 56/TC - B0/USART1 - DSR (io), 8 PB25/GPIO 57/TC - A1/USART1 - DTR (io), 9 PB26/GPIO 58/TC - B1/USART1 - RI (io), 10 PB27/GPIO 59/TC - A2/PWM - PWM[4] (io), 14 PB28/GPIO 60/TC - B2/PWM - PWM[5] (io), 15 PB29/GPIO 61/USART2 - RXD/PM - GCLK[1]/EBI - NCS[2] (io), 16 PB30/GPIO 62/USART2 - TXD/PM - GCLK[2]/EBI - SDCS (io), 17 PB31/GPIO 63/USART2 - CLK/PM - GCLK[3]/EBI - NWAIT (io), 65 PB00/GPIO 32/MACB - TX_CLK/USART2 - RTS/USART3 - RTS (io), 66 PB01/GPIO 33/MACB - TX_EN/USART2 - CTS/USART3 - CTS (io), 70 PB02/GPIO 34/MACB - TXD[0]/DAC - DATA[0] (io), 71 PB03/GPIO 35/MACB - TXD[1]/DAC - DATAN[0] (io), 72 PB04/GPIO 36/MACB - CRS/USART3 - CLK/EBI - NCS[3] (io), 73 PB05/GPIO 37/MACB - RXD[0]/DAC - DATA[1] (io), 74 PB06/GPIO 38/MACB - RXD[1]/DAC - DATAN[1] (io), 75 PB07/GPIO 39/MACB - RX_ER (io), 76 PB08/GPIO 40/MACB - MDC (io), 77 PB09/GPIO 41/MACB - MDIO (io), 78 PB10/GPIO 42/MACB - TXD[2]/USART3 - RXD/EBI - SDCK (io), 81 PB11/GPIO 43/MACB - TXD[3]/USART3 - TXD/EBI - SDCKE (io), 82 PB12/GPIO 44/MACB - TX_ER/TC - CLK0/EBI - RAS (io), 87 PB13/GPIO 45/MACB - RXD[2]/TC - CLK1/EBI - CAS (io), 88 PB14/GPIO 46/MACB - RXD[3]/TC - CLK2/EBI - SDWE (io), 95 PB15/GPIO 47/MACB - RX_DV (io), 96 PB16/GPIO 48/MACB - COL/USB - USB_ID/EBI - SDA10 (io), 98 PB17/GPIO 49/MACB - RX_CLK/USB - USB_VBOF/EBI - ADDR[23] (io), 99 PB18/GPIO 50/MACB - SPEED/ADC - TRIGGER/PWM - PWM[6] (io), 100 PB19/GPIO 51/PWM - PWM[0]/PM - GCLK[0]/EIM - SCAN[4] (io)
part C pins: 63 PC00/GPIO 64/XIN32 (io), 64 PC01/GPIO 65/XOUT32 (io), 85 PC02/GPIO 66/XIN0 (io), 86 PC03/GPIO 67/XOUT0 (io), 93 PC04/GPIO 68/XIN1 (io), 94 PC05/GPIO 69/XOUT1 (io)
part D pins: 18 RESET_N (in), 46 VBUS (in), 48 DM (in), 49 DP (in), 89 TMS (in), 90 TCK (in), 91 TDO (out), 92 TDI (in)
part E pins: 4 VDDIO (power), 5 GND (power), 11 VDDOUT (power), 12 VDDIN (power), 13 GND (power), 21 GND (power), 22 VDDCORE (power), 32 NC, 34 VDDCORE (power), 35 GND (power), 38 VDDCORE (power), 47 VDDIO (power), 50 GND (power), 59 VDDANA (power), 60 ADVREF (power), 61 GNDANA (power), 62 VDDPLL (power), 67 VDDIO (power), 68 VDDIO (power), 69 GND (power), 79 VDDIO (power), 80 GND (power), 97 VDDCORE (power)

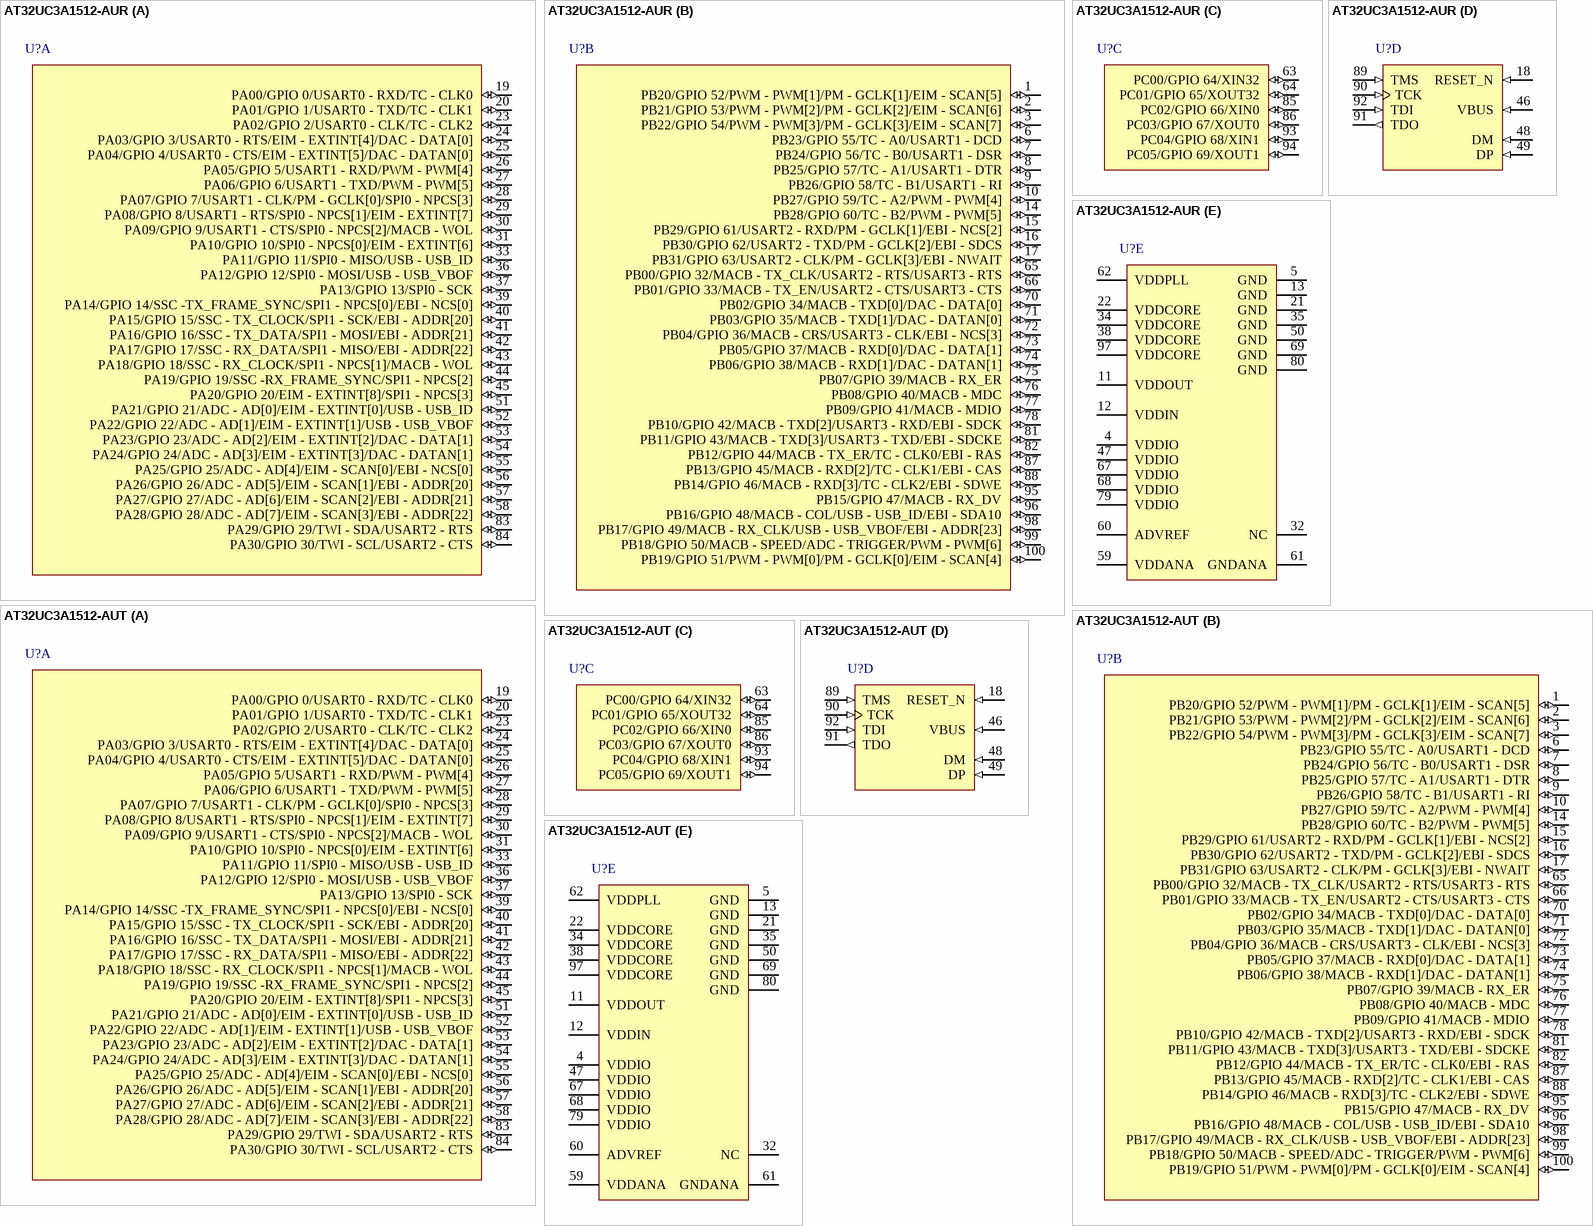
[diagram p30: symbols AT32UC3A1512-AUR to AT32UC3A1512-AUT]

## AT32UC3A1512-AUR
designator U?
32-bit AVR UC3 Microcontroller, 512KB Flash, 64KB SRAM, 69 GPIO pins, 100-Pin TQFP, Industrial Grade, Reel; DatasheetVersion: revK, Jan-2012; PackageVersion: 2011; PackageReference: TQFP100; PackageDescription: 100-Pin Thin Plastic Quad Flat Pack, 14 x 14 x 1 mm Body, 0.5 mm Pitch; Code_JEDEC: MS-026-AED; ComponentLink1Description: Manufacturer URL; ComponentLink1URL: http://www.atmel.com/; ComponentLink2Description: AT32UC3A Datasheet; ComponentLink2URL: http://www.atmel.com/dyn/resources/prod_documents/doc32058.pdf; ComponentLink3Description: AT32UC3A Summary; ComponentLink3URL: http://www.atmel.com/dyn/resources/prod_documents/32058S.pdf
footprint TQFP100_N (Thin QFP, 100-Leads, Body 14x14mm, Pitch 0.5mm, IPC Medium Density)
footprint TQFP100_L (Thin QFP, 100-Leads, Body 14x14mm, Pitch 0.5mm, IPC High Density)
footprint TQFP100_M (Thin QFP, 100-Leads, Body 14x14mm, Pitch 0.5mm, IPC Low Density)
part A pins: 19 PA00/GPIO 0/USART0 - RXD/TC - CLK0 (io), 20 PA01/GPIO 1/USART0 - TXD/TC - CLK1 (io), 23 PA02/GPIO 2/USART0 - CLK/TC - CLK2 (io), 24 PA03/GPIO 3/USART0 - RTS/EIM - EXTINT[4]/DAC - DATA[0] (io), 25 PA04/GPIO 4/USART0 - CTS/EIM - EXTINT[5]/DAC - DATAN[0] (io), 26 PA05/GPIO 5/USART1 - RXD/PWM - PWM[4] (io), 27 PA06/GPIO 6/USART1 - TXD/PWM - PWM[5] (io), 28 PA07/GPIO 7/USART1 - CLK/PM - GCLK[0]/SPI0 - NPCS[3] (io), 29 PA08/GPIO 8/USART1 - RTS/SPI0 - NPCS[1]/EIM - EXTINT[7] (io), 30 PA09/GPIO 9/USART1 - CTS/SPI0 - NPCS[2]/MACB - WOL (io), 31 PA10/GPIO 10/SPI0 - NPCS[0]/EIM - EXTINT[6] (io), 33 PA11/GPIO 11/SPI0 - MISO/USB - USB_ID (io), 36 PA12/GPIO 12/SPI0 - MOSI/USB - USB_VBOF (io), 37 PA13/GPIO 13/SPI0 - SCK (io), 39 PA14/GPIO 14/SSC -TX_FRAME_SYNC/SPI1 - NPCS[0]/EBI - NCS[0] (io), 40 PA15/GPIO 15/SSC - TX_CLOCK/SPI1 - SCK/EBI - ADDR[20] (io), 41 PA16/GPIO 16/SSC - TX_DATA/SPI1 - MOSI/EBI - ADDR[21] (io), 42 PA17/GPIO 17/SSC - RX_DATA/SPI1 - MISO/EBI - ADDR[22] (io), 43 PA18/GPIO 18/SSC - RX_CLOCK/SPI1 - NPCS[1]/MACB - WOL (io), 44 PA19/GPIO 19/SSC -RX_FRAME_SYNC/SPI1 - NPCS[2] (io), 45 PA20/GPIO 20/EIM - EXTINT[8]/SPI1 - NPCS[3] (io), 51 PA21/GPIO 21/ADC - AD[0]/EIM - EXTINT[0]/USB - USB_ID (io), 52 PA22/GPIO 22/ADC - AD[1]/EIM - EXTINT[1]/USB - USB_VBOF (io), 53 PA23/GPIO 23/ADC - AD[2]/EIM - EXTINT[2]/DAC - DATA[1] (io), 54 PA24/GPIO 24/ADC - AD[3]/EIM - EXTINT[3]/DAC - DATAN[1] (io), 55 PA25/GPIO 25/ADC - AD[4]/EIM - SCAN[0]/EBI - NCS[0] (io), 56 PA26/GPIO 26/ADC - AD[5]/EIM - SCAN[1]/EBI - ADDR[20] (io), 57 PA27/GPIO 27/ADC - AD[6]/EIM - SCAN[2]/EBI - ADDR[21] (io), 58 PA28/GPIO 28/ADC - AD[7]/EIM - SCAN[3]/EBI - ADDR[22] (io), 83 PA29/GPIO 29/TWI - SDA/USART2 - RTS (io), 84 PA30/GPIO 30/TWI - SCL/USART2 - CTS (io)
part B pins: 1 PB20/GPIO 52/PWM - PWM[1]/PM - GCLK[1]/EIM - SCAN[5] (io), 2 PB21/GPIO 53/PWM - PWM[2]/PM - GCLK[2]/EIM - SCAN[6] (io), 3 PB22/GPIO 54/PWM - PWM[3]/PM - GCLK[3]/EIM - SCAN[7] (io), 6 PB23/GPIO 55/TC - A0/USART1 - DCD (io), 7 PB24/GPIO 56/TC - B0/USART1 - DSR (io), 8 PB25/GPIO 57/TC - A1/USART1 - DTR (io), 9 PB26/GPIO 58/TC - B1/USART1 - RI (io), 10 PB27/GPIO 59/TC - A2/PWM - PWM[4] (io), 14 PB28/GPIO 60/TC - B2/PWM - PWM[5] (io), 15 PB29/GPIO 61/USART2 - RXD/PM - GCLK[1]/EBI - NCS[2] (io), 16 PB30/GPIO 62/USART2 - TXD/PM - GCLK[2]/EBI - SDCS (io), 17 PB31/GPIO 63/USART2 - CLK/PM - GCLK[3]/EBI - NWAIT (io), 65 PB00/GPIO 32/MACB - TX_CLK/USART2 - RTS/USART3 - RTS (io), 66 PB01/GPIO 33/MACB - TX_EN/USART2 - CTS/USART3 - CTS (io), 70 PB02/GPIO 34/MACB - TXD[0]/DAC - DATA[0] (io), 71 PB03/GPIO 35/MACB - TXD[1]/DAC - DATAN[0] (io), 72 PB04/GPIO 36/MACB - CRS/USART3 - CLK/EBI - NCS[3] (io), 73 PB05/GPIO 37/MACB - RXD[0]/DAC - DATA[1] (io), 74 PB06/GPIO 38/MACB - RXD[1]/DAC - DATAN[1] (io), 75 PB07/GPIO 39/MACB - RX_ER (io), 76 PB08/GPIO 40/MACB - MDC (io), 77 PB09/GPIO 41/MACB - MDIO (io), 78 PB10/GPIO 42/MACB - TXD[2]/USART3 - RXD/EBI - SDCK (io), 81 PB11/GPIO 43/MACB - TXD[3]/USART3 - TXD/EBI - SDCKE (io), 82 PB12/GPIO 44/MACB - TX_ER/TC - CLK0/EBI - RAS (io), 87 PB13/GPIO 45/MACB - RXD[2]/TC - CLK1/EBI - CAS (io), 88 PB14/GPIO 46/MACB - RXD[3]/TC - CLK2/EBI - SDWE (io), 95 PB15/GPIO 47/MACB - RX_DV (io), 96 PB16/GPIO 48/MACB - COL/USB - USB_ID/EBI - SDA10 (io), 98 PB17/GPIO 49/MACB - RX_CLK/USB - USB_VBOF/EBI - ADDR[23] (io), 99 PB18/GPIO 50/MACB - SPEED/ADC - TRIGGER/PWM - PWM[6] (io), 100 PB19/GPIO 51/PWM - PWM[0]/PM - GCLK[0]/EIM - SCAN[4] (io)
part C pins: 63 PC00/GPIO 64/XIN32 (io), 64 PC01/GPIO 65/XOUT32 (io), 85 PC02/GPIO 66/XIN0 (io), 86 PC03/GPIO 67/XOUT0 (io), 93 PC04/GPIO 68/XIN1 (io), 94 PC05/GPIO 69/XOUT1 (io)
part D pins: 18 RESET_N (in), 46 VBUS (in), 48 DM (in), 49 DP (in), 89 TMS (in), 90 TCK (in), 91 TDO (out), 92 TDI (in)
part E pins: 4 VDDIO (power), 5 GND (power), 11 VDDOUT (power), 12 VDDIN (power), 13 GND (power), 21 GND (power), 22 VDDCORE (power), 32 NC, 34 VDDCORE (power), 35 GND (power), 38 VDDCORE (power), 47 VDDIO (power), 50 GND (power), 59 VDDANA (power), 60 ADVREF (power), 61 GNDANA (power), 62 VDDPLL (power), 67 VDDIO (power), 68 VDDIO (power), 69 GND (power), 79 VDDIO (power), 80 GND (power), 97 VDDCORE (power)